# Altium schematic symbol library LINUX.SchLib: 132 symbols (part 2 of 4)
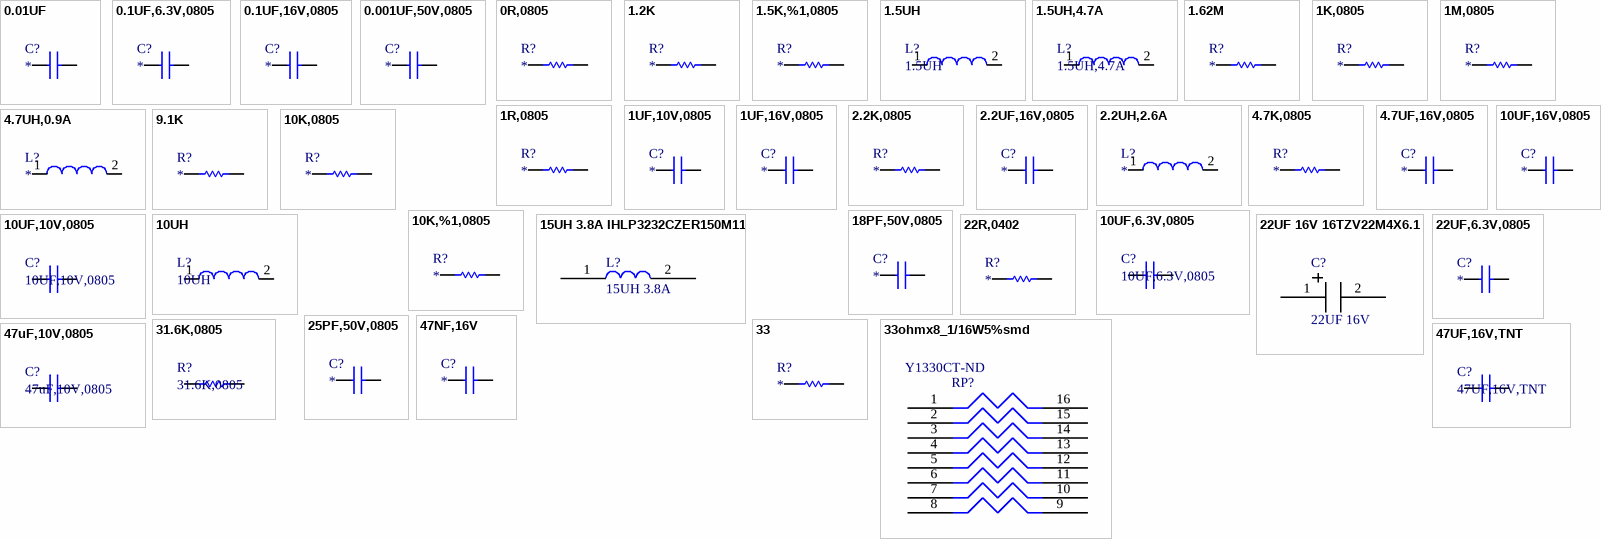
[diagram p8: symbols 0.01UF to 47UF,16V,TNT]

## 47NF,16V
designator C?
AVX - 0805YC473KAT2A - CAP, MLCC, X7R, 47NF, 16V, 0805; Capacitance: 0.047; Capacitance Tolerance: ± 10%; Dielectric Characteristic: X7; Voltage Rating: 16; Ceramic Capacitor Case: 0805 [2012 Metric]; SVHC: No SVHC (16-Jun-2014); Capacitor Case Style: 0805 [2012 Metric]<!--FANDB--><div class="features-and-benefits-container"></div>; Tolerance: ±10%; Manufacturer: AVX; Manufacturer Part Number: 0805YC473KAT2A; RoHS: YES; Product Range: -; Operating Temperature Min: -55; Operating Temperature Max: 125; Packaging: Cut Tape; MSL: MSL 1 - Unlimited; Capacitance Tolerance ±: ± 10%; ComponentLink1URL: http://www.farnell.com/datasheets/1679506.pdf; ComponentLink1Description: http://www.farnell.com/datasheets/1679506.pdf; Supplier 1: Digi-Key; Category: Capacitors; Stock 1: 15297; Pricing 1: 1=0.18, 10=0.124, 100=0.063, 250=0.051, 500=0.045, 1000=0.03825 (USD); Voltage - Rated: 16V; Temperature Coefficient: X7R; Mounting Type: Surface Mount, MLCC; Operating Temperature: -55°C ~ 125°C; Applications: General Purpose; Ratings: -; Package / Case: 0805 (2012 Metric); Size / Dimension: 0.079" L x 0.049" W (2.01mm x 1.25mm); Height - Seated (Max): -; Thickness (Max): 0.037" (0.94mm); Lead Spacing: -; Features: -; Lead Style: -; ComponentLink2URL: http://www.avx.com/docs/Catalogs/cx7r.pdf; ComponentLink2Description: http://www.avx.com/docs/Catalogs/cx7r.pdf; Supplier Part Number 1: 478-6221-1-ND
footprint 0805
pins: 1, 2

## 47uF,10V,0805
designator C?
Multilayer Ceramic Capacitors MLCC - SMD/SMT 0805 47uF 10volts X5R +/-20%; Manufacturer: TDK; Manufacturer Part Number: C2012X5R1A476M125AC; Tolerance: 20 %; Type: Multilayer Ceramic Chip Capacitor; Case Height: 1.25 mm; Case Length: 2 mm; Temperature Coefficient / Code: +/- 15 %; Supplier 1: Mouser; RoHS: RoHS Compliant; Category: Multilayer Ceramic Capacitors MLCC - SMD/SMT; Stock 1: 127308; Pricing 1: 1=1.53, 10=1.28, 100=0.615, 1000=0.548, 2000=0.368, 10000=0.349, 24000=0.342, 50000=0.337 (AUD); Capacitance: 47 uF; Package / Case: 0805 (2012 metric); Packaging: Reel; Product: General Type MLCCs; Termination Style: SMD/SMT; Voltage Rating DC: 10 V; Brand: TDK; Case Code - in: 0805; Case Code - mm: 2012; Case Width: 1.25 mm; Dielectric: X5R; Maximum Operating Temperature: + 85 C; Minimum Operating Temperature: - 55 C; Standard Pack Qty: 2000; RoHS - Mouser: Y; Minimum Order Quantity: 1; Reeling: True; ComponentLink1URL: http://www.mouser.com/ds/2/400/mlcc_commercial_general_en-266370.pdf; ComponentLink1Description: http://www.mouser.com/ds/2/400/mlcc_commercial_general_en-266370.pdf; Supplier Part Number 1: 810-C2012X5R1A476M
footprint 0805
pins: 1, 2

## 47UF,16V,TNT
designator C?
Tantalum Capacitors - Solid SMD 16volts 47uF 10% ESR=150mOhms; Manufacturer: Kemet; Manufacturer Part Number: T495D476K016ATE150; Mfr Case Code: D; Case Length: 7.3 mm; Case Width: 4.3 mm; Supplier 1: Mouser; RoHS: RoHS Compliant; Category: Tantalum Capacitors - Solid SMD; Stock 1: 412; Pricing 1: 1=2.60, 10=1.89, 100=1.25, 500=0.885, 1000=0.765, 2500=0.689, 10000=0.650, 25000=0.637 (AUD); Capacitance: 47 uF; Height: 4.3 mm; Operating Temperature Range: - 55 C to + 125 C; Package / Case: 2917 (7343 metric); Packaging: Reel; Product: Tantalum Solid Low ESR Automotive Grade; Series: T495; Termination Style: SMD/SMT; Tolerance: 10 %; Voltage Rating: 16 V; Voltage Rating DC: 16 V; Brand: Kemet; ESR: 150 mOhms; Leakage Current: -; Case Code - in: 2917; Case Code - mm: 7343; Dissipation Factor DF: -; Maximum Operating Temperature: + 125 C; Minimum Operating Temperature: - 55 C; Product Category: SMD Low ESR Tantalum Chip Capacitors; Ripple Current: -; Standard Pack Qty: 500; RoHS - Mouser: Y; Minimum Order Quantity: 1; Reeling: True; ComponentLink1URL: http://www.mouser.com/ds/2/212/KEM_T2009_T495-321035.pdf; ComponentLink1Description: http://www.mouser.com/ds/2/212/KEM_T2009_T495-321035.pdf; Supplier Part Number 1: 80-T495D476K016
footprint INDUCTR
pins: 1, 2

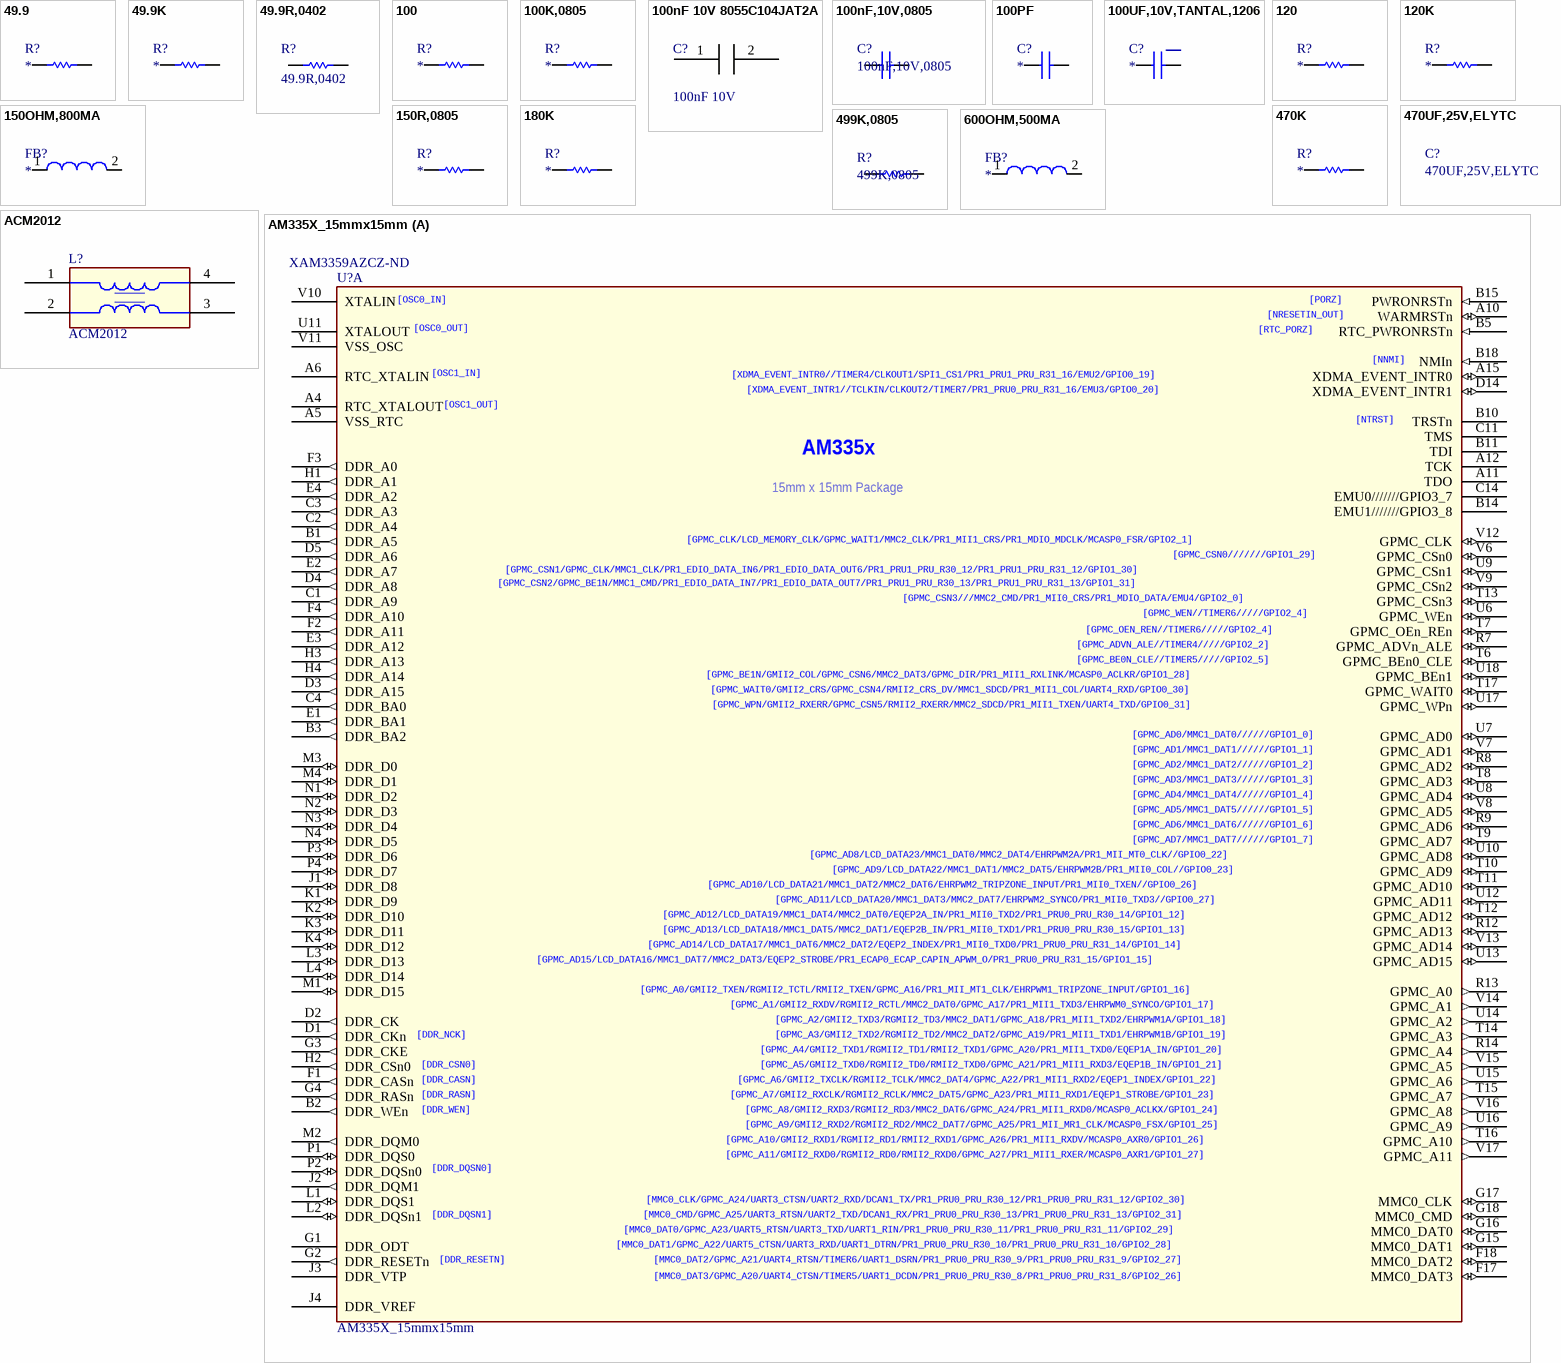
[diagram p1: symbols 49.9 to AM335X_15mmx15mm]

## 49.9
designator R?
PANASONIC - ERJP06F49R9V - RESISTOR, THICK FILM, 49.9 OHM, 0.5W, 1%; Product Range: PANASONIC - ERJ Series; Resistance: 49.9; Power Rating: 500; Resistor Case Style: 0805 [2012 Metric]; Temperature Coefficient: ± 100; Voltage Rating: 400; SVHC: No SVHC (16-Dec-2013; Power (Watts): 0.1W, 1/10W; Manufacturer: PANASONIC; Manufacturer Part Number: ERJP06F49R9V; RoHS: YES; Resistance Tolerance: ± 1%; Resistor Element Material: Thick Film; Packaging: Cut Tape; MSL: -; ComponentLink1URL: http://www.farnell.com/datasheets/1801181.pdf; ComponentLink1Description: http://www.farnell.com/datasheets/1801181.pdf; ComponentLink2URL: http://www.farnell.com/datasheets/1718548.pdf; ComponentLink2Description: http://www.farnell.com/datasheets/1718548.pdf; Category: Resistors; Resistance (Ohms): 49.9; Tolerance: ±1%; Composition: Thick Film; Features: Automotive AEC-Q200; Operating Temperature: -55°C ~ 155°C; Package / Case: 0402 (1005 Metric); Supplier Device Package: 0402; Size / Dimension: 0.039" L x 0.020" W (1.00mm x 0.50mm); Height: 0.016" (0.40mm); Number of Terminations: 2; ComponentLink3URL: http://industrial.panasonic.com/www-cgi/jvcr13pz.cgi?E+PZ+3+AOA0002+ERJ2RKF49R9X+7+WW; ComponentLink3Description: http://industrial.panasonic.com/www-cgi/jvcr13pz.cgi?E+PZ+3+AOA0002+ERJ2RKF49R9X+7+WW; Supplier 1: Digi-Key; Stock 1: 24718; Pricing 1: 1=0.63, 50=0.2494, 100=0.1924, 250=0.14964, 500=0.10546, 1000=0.07695 (USD); ComponentLink4URL: http://industrial.panasonic.com/www-cgi/jvcr13pz.cgi?E+PZ+3+AOA0026+ERA6AEB49R9V+7+WW; ComponentLink4Description: http://industrial.panasonic.com/www-cgi/jvcr13pz.cgi?E+PZ+3+AOA0026+ERA6AEB49R9V+7+WW; Supplier Part Number 1: P49.9DACT-ND
footprint 0402
pins: 1, 2

## 49.9K
designator R?
RES 49.9K OHM 1/8W .1% 0805 SMD; Manufacturer: Panasonic Electronic Components; Manufacturer Part Number: ERA-6AEB4992V; Tolerance: ±0.1%; Power (Watts): 0.125W, 1/8W; Temperature Coefficient: ±25ppm/°C; Supplier 1: Digi-Key; RoHS: RoHS Compliant; Category: Resistors; Stock 1: 25646; Pricing 1: 1=0.63, 50=0.2494, 100=0.1924, 250=0.14964, 500=0.10546, 1000=0.07695 (USD); Packaging: Cut Tape (CT); Resistance (Ohms): 49.9k; Composition: Thin Film; Features: Automotive AEC-Q200 Qualified; Package / Case: 0805 (2012 Metric); Supplier Device Package: 0805; Size / Dimension: 0.079" L x 0.049" W (2.00mm x 1.25mm); Height: 0.024" (0.60mm); Number of Terminations: 2; ComponentLink1URL: http://industrial.panasonic.com/www-cgi/jvcr13pz.cgi?E+PZ+3+AOA0026+ERA6AEB4992V+7+WW; ComponentLink1Description: http://industrial.panasonic.com/www-cgi/jvcr13pz.cgi?E+PZ+3+AOA0026+ERA6AEB4992V+7+WW; Supplier Part Number 1: P49.9KDACT-ND
footprint 0805
pins: 1, 2

## 49.9R,0402
designator R?
RES SMD 49.9 OHM 0.1% 1/16W 0402; Manufacturer: TE Connectivity; Manufacturer Part Number: CPF0402B49R9E; Resistance (Ohms): 49.9; Power (Watts): 0.063W, 1/16W; Temperature Coefficient: ±25ppm/°C; Supplier 1: Digi-Key; RoHS: RoHS Compliant; Category: Resistors; Stock 1: 4750; Pricing 1: 1=0.63, 10=0.484, 25=0.368, 50=0.2734, 100=0.2033, 250=0.17176, 500=0.14722, 1000=0.11216, 2500=0.10516 (USD); Packaging: Cut Tape (CT); Tolerance: ±0.1%; Composition: Thin Film; Features: -; Operating Temperature: -55°C ~ 155°C; Package / Case: 0402 (1005 Metric); Supplier Device Package: 0402; Size / Dimension: 0.039" L x 0.020" W (1.00mm x 0.50mm); Height: 0.014" (0.35mm); Number of Terminations: 2; ComponentLink1URL: http://www.te.com/commerce/DocumentDelivery/DDEController?Action=srchrtrv&DocNm=1773200&DocType=DS&DocLang=English; ComponentLink1Description: http://www.te.com/commerce/DocumentDelivery/DDEController?Action=srchrtrv&DocNm=1773200&DocType=DS&DocLang=English; Supplier Part Number 1: A119944CT-ND
footprint 0402
pins: 1, 2

## 100
designator R?
RES 100 OHM 1/8W 1% 0805 SMD; Manufacturer: Rohm Semiconductor; Manufacturer Part Number: MCR10ERTF1000; Resistance (Ohms): 100; Power (Watts): 0.125W, 1/8W; Temperature Coefficient: ±100ppm/°C; Supplier 1: Digi-Key; RoHS: RoHS Compliant; Category: Resistors; Stock 1: 27803; Pricing 1: 1=0.1, 10=0.027, 25=0.0196, 100=0.0109, 250=0.00832, 500=0.00666, 1000=0.0049 (USD); Packaging: Cut Tape (CT); Tolerance: ±1%; Composition: Thick Film; Features: -; Package / Case: 0805 (2012 Metric); Supplier Device Package: 0805 (2012 Metric); Size / Dimension: 0.079" L x 0.049" W (2.00mm x 1.25mm); Height: 0.024" (0.60mm); Number of Terminations: 2; ComponentLink1URL: http://rohmfs.rohm.com/en/products/databook/datasheet/passive/resistor/chip_resistor/mcr_g.pdf; ComponentLink1Description: http://rohmfs.rohm.com/en/products/databook/datasheet/passive/resistor/chip_resistor/mcr_g.pdf; Supplier Part Number 1: RHM100CHCT-ND
footprint 0805
pins: 1, 2

## 100K,0805
designator R?
TE CONNECTIVITY / NEOHM - CPF0805B100KE1 - RESISTOR, 0805, 100K; Product Range: TE CONNECTIVITY - CPF Series; Resistance: 100; Resistance Tolerance: ± 0.1%; Resistor Case Style: 0805 [2012 Metric]; Resistor Element Material: Thin Film; Temperature Coefficient: ± 25; Voltage Rating: 200; External Depth: 0.5; External Length / Height: 2; External Width: 1.25; Resistor Mounting: SMD; Tolerance: ±5%; Power (Watts): 0.125W, 1/8W; Manufacturer: TE CONNECTIVITY / NEOHM; Manufacturer Part Number: CPF0805B100KE1; RoHS: YES; Power Rating: 100; Packaging: Cut Tape; MSL: -; No. of Pins: 2; Operating Temperature Max: 155; Operating Temperature Min: -55; Operating Temperature Range: -55°C to +155; Series: CPF<!--FANDB--><div class="features-and-benefits-container"></div>; ComponentLink1URL: http://www.tycoelectronics.com/commerce/DocumentDelivery/DDEController?Action=srchrtrv&DocNm=1614883&DocType=Customer+Drawing&DocLang=English; ComponentLink1Description: http://www.tycoelectronics.com/commerce/DocumentDelivery/DDEController?Action=srchrtrv&DocNm=1614883&DocType=Customer+Drawing&DocLang=English; ComponentLink2URL: http://www.tycoelectronics.com/commerce/DocumentDelivery/DDEController?Action=srchrtrv&DocNm=1773200&DocType=Data+Sheet&DocLang=English; ComponentLink2Description: http://www.tycoelectronics.com/commerce/DocumentDelivery/DDEController?Action=srchrtrv&DocNm=1773200&DocType=Data+Sheet&DocLang=English; Supplier 1: Digi-Key; Category: Resistors; Stock 1: 923150; Pricing 1: 1=0.1, 50=0.0196, 100=0.0149, 250=0.01104, 500=0.00816, 1000=0.00544, 2500=0.00459 (USD); Resistance (Ohms): 100k; Composition: Thick Film; Features: Automotive AEC-Q200; Operating Temperature: -55°C ~ 155°C; Package / Case: 0805 (2012 Metric); Supplier Device Package: 0805; Size / Dimension: 0.079" L x 0.049" W (2.00mm x 1.25mm); Height: 0.028" (0.70mm); Number of Terminations: 2; ComponentLink3URL: http://industrial.panasonic.com/www-cgi/jvcr13pz.cgi?E+PZ+3+AOA0001+ERJ6GEYJ104V+7+WW; ComponentLink3Description: http://industrial.panasonic.com/www-cgi/jvcr13pz.cgi?E+PZ+3+AOA0001+ERJ6GEYJ104V+7+WW; Supplier Part Number 1: P100KACT-ND
footprint 0805
pins: 1, 2

## 100nF 10V 8055C104JAT2A
designator C?, comment 100nF 10V
AVX - 08055C104JAT2A - CAP, MLCC, X7R, 100NF, 50V, 0805; Capacitance: 0.1; Capacitance Tolerance: ± 5%; Dielectric Characteristic: X7; Voltage Rating: 50; Ceramic Capacitor Case: 0805 [2012 Metric]; SVHC: No SVHC (16-Jun-2014); Capacitor Terminals: SMD; External Depth: 1.25; External Length / Height: 0.5; External Width: 2.01; No. of Pins: 2; No. of Channels: 4; Isolation Voltage: 2.5; CTR Min: 50%; Forward Current If Max: 30; Optocoupler Case Style: SSOP; Input Current: 5; Optocoupler Output Type: Phototransistor; Output Voltage: 80; Tolerance: ±5%; Type: Commercial Grade MLCC; Voltage Rating DC: 6.3 V; Brand: TDK; Case Height: 1.25 mm; Case Length: 2 mm; Class: Class 2; Dissipation Factor DF: 10; Temperature Coefficient / Code: +/- 15 %; Product Status: New Product; Manufacturer: AVX; Manufacturer Part Number: 08055C104JAT2A; RoHS: YES; Product Range: -; Operating Temperature Min: -55; Operating Temperature Max: 125; Packaging: Cut Tape; MSL: MSL 1 - Unlimited; Capacitance Tolerance ±: ± 5%; Capacitor Case Style: 0805 [2012 Metric]; Operating Temperature Range: -55°C to +125; Series: MLCC<!--FANDB--><div class="features-and-benefits-container"></div>; ComponentLink1URL: http://www.farnell.com/datasheets/1679506.pdf; ComponentLink1Description: http://www.farnell.com/datasheets/1679506.pdf; ComponentLink2URL: http://www.farnell.com/cad/1614383.zip; ComponentLink2Description: http://www.farnell.com/cad/1614383.zip; ComponentLink3URL: http://www.farnell.com/datasheets/1825494.pdf; ComponentLink3Description: http://www.farnell.com/datasheets/1825494.pdf; ComponentLink4URL: http://www.farnell.com/datasheets/89583.pdf; ComponentLink4Description: http://www.farnell.com/datasheets/89583.pdf; Supplier 1: Digi-Key; Category: Capacitors; Stock 1: 205492; Pricing 1: 1=0.15, 10=0.1, 100=0.0475, 250=0.04, 500=0.0335, 1000=0.0275 (USD); Voltage - Rated: 50V; Temperature Coefficient: X7R; Mounting Type: Surface Mount, MLCC; Operating Temperature: -55°C ~ 125°C; Applications: General Purpose; Ratings: -; Package / Case: 0805 (2012 Metric); Size / Dimension: 0.079" L x 0.049" W (2.01mm x 1.25mm); Height - Seated (Max): -; Thickness (Max): 0.037" (0.94mm); Lead Spacing: -; Features: -; Lead Style: -; ComponentLink5URL: http://www.avx.com/docs/Catalogs/cx7r.pdf; ComponentLink5Description: http://www.avx.com/docs/Catalogs/cx7r.pdf; Supplier Part Number 1: 478-3352-1-ND; Product: General Type MLCCs; Termination Style: SMD/SMT; Case Code - in: 0805; Case Code - mm: 2012; Case Width: 1.25 mm; Dielectric: X7R; Maximum Operating Temperature: + 125 C; Minimum Operating Temperature: - 55 C; RoHS - Mouser: Y; Minimum Order Quantity: 1; Reeling: True; ComponentLink6URL: http://www.mouser.com/ds/2/400/mlcc_commercial_general_en-266370.pdf; ComponentLink6Description: http://www.mouser.com/ds/2/400/mlcc_commercial_general_en-266370.pdf
footprint 0805
pins: 1 14, 2 15

## 100nF,10V,0805
designator C?
Multilayer Ceramic Capacitors MLCC - SMD/SMT 10volts 0.1uF X7R 10%; Manufacturer: Kemet; Manufacturer Part Number: C0805C104K8RACTU; Type: SMD MLCC X7R 6.3 - 250 VDC Commerical Grade; Case Length: 2 mm; Case Width: 1.2 mm; Class: Class 1; Temperature Coefficient / Code: +/- 15 %; Supplier 1: Mouser; RoHS: RoHS Compliant; Category: Multilayer Ceramic Capacitors MLCC - SMD/SMT; Stock 1: 21715; Pricing 1: 1=0.178, 10=0.071, 100=0.049, 1000=0.033, 4000=0.027, 8000=0.022, 100000=0.016 (AUD); Capacitance: 0.1 uF; Operating Temperature Range: - 55 C to + 125 C; Package / Case: 0805 (2012 metric); Packaging: Reel; Product: General Type MLCCs; Series: C0805C; Termination Style: SMD/SMT; Tolerance: 10 %; Voltage Rating AC: -; Voltage Rating DC: 10 V; Brand: Kemet; Case Code - in: 0805; Case Code - mm: 2012; Case Height: -; Dielectric: X7R; Dissipation Factor DF: -; Lead Spacing: 0.75 mm; Maximum Operating Temperature: + 125 C; Minimum Operating Temperature: - 55 C; Product Category: 0805 SMD Ceramic Chip Capacitors; Standard Pack Qty: 4000; RoHS - Mouser: Y; Minimum Order Quantity: 1; Reeling: True; ComponentLink1URL: http://www.mouser.com/ds/2/212/KEM_C1002_X7R_SMD-357932.pdf; ComponentLink1Description: http://www.mouser.com/ds/2/212/KEM_C1002_X7R_SMD-357932.pdf; Supplier Part Number 1: 80-C0805C104K8R
footprint 0805
pins: 1, 2

## 100PF
designator C?
MULTICOMP - MCMT21N101F100CT - CAP, MLCC, C0G/NP0, 100PF, 10V, 0805; Product Range: MULTICOMP - MCCA Series; Capacitance: 100; Capacitance Tolerance: ± 1%; Voltage Rating: 10; Ceramic Capacitor Case: 0805 [2012 Metric]; Capacitor Terminals: SMD; Temperature Coefficient: ± 30; Tolerance: ±10%; Voltage - Rated: 25V; Manufacturer: MULTICOMP; Manufacturer Part Number: MCMT21N101F100CT; RoHS: YES; Dielectric Characteristic: C0G / NP0; Operating Temperature Min: -55; Operating Temperature Max: 125; Packaging: Cut Tape; MSL: -; Capacitance Tolerance ±: ± 1%; Capacitor Case Style: 0805 [2012 Metric]; Operating Temperature Range: -55°C to +125; Series: MT; ComponentLink1URL: http://www.farnell.com/datasheets/876497.pdf; ComponentLink1Description: http://www.farnell.com/datasheets/876497.pdf; ComponentLink2URL: http://www.farnell.com/datasheets/1825496.pdf; ComponentLink2Description: http://www.farnell.com/datasheets/1825496.pdf; Supplier 1: Digi-Key; Category: Capacitors; Stock 1: 10259; Pricing 1: 1=0.16, 10=0.111, 50=0.063, 100=0.0522, 250=0.0432, 500=0.0366, 1000=0.0303 (USD); Mounting Type: Surface Mount, MLCC; Operating Temperature: -55°C ~ 125°C; Applications: General Purpose; Ratings: -; Package / Case: 0805 (2012 Metric); Size / Dimension: 0.079" L x 0.049" W (2.00mm x 1.25mm); Height - Seated (Max): -; Thickness (Max): 0.035" (0.88mm); Lead Spacing: -; Features: -; Lead Style: -; ComponentLink3URL: http://www.kemet.com/docfinder?Partnumber=C0805C101K3GACTU; ComponentLink3Description: http://www.kemet.com/docfinder?Partnumber=C0805C101K3GACTU; Supplier Part Number 1: 399-9150-1-ND
footprint 0805
pins: 1, 2

## 100UF,10V,TANTAL,1206
designator C?
VISHAY - TL8A0107M010C - CAP, TANT, 100UF, 10V, CASE A0; Capacitance: 100µF; Tolerance: ±20%; ESR (Equivalent Series Resistance): 7 Ohm; Type: Molded; Manufacturer: VISHAY; Manufacturer Part Number: TL8A0107M010C; RoHS: YES; ComponentLink1URL: http://www.farnell.com/datasheets/1821046.pdf; ComponentLink1Description: http://www.farnell.com/datasheets/1821046.pdf; Supplier 1: Digi-Key; Category: Capacitors; Stock 1: 19102; Pricing 1: 1=1.35, 10=1.128, 100=0.828, 250=0.72, 500=0.672, 1000=0.528 (USD); Packaging: Cut Tape (CT); Voltage - Rated: 10V; Operating Temperature: -55°C ~ 125°C; Mounting Type: Surface Mount; Package / Case: 1206 (3216 Metric); Size / Dimension: 0.126" L x 0.063" W (3.20mm x 1.60mm); Height - Seated (Max): 0.039" (1.00mm); Lead Spacing: -; Manufacturer Size Code: A0; Features: General Purpose; Lifetime @ Temp.: -; ComponentLink2URL: http://www.vishay.com/docs/40156/tl8.pdf; ComponentLink2Description: http://www.vishay.com/docs/40156/tl8.pdf; Supplier Part Number 1: 718-1921-1-ND
footprint 1206
pins: 1, 2

## 120
designator R?
BOURNS - CR0805-FX-1200GLF - RESISTOR, 0805, 120R, 1%, 1/8W; Resistance (Ohms): 120; Tolerance: ±5%; Power (Watts): 0.125W, 1/8W; Temperature Coefficient: ±200ppm/°C; Manufacturer: BOURNS; Manufacturer Part Number: CR0805-FX-1200GLF; RoHS: YES; ComponentLink1URL: http://www.farnell.com/datasheets/1845293.pdf; ComponentLink1Description: http://www.farnell.com/datasheets/1845293.pdf; Supplier 1: Digi-Key; Category: Resistors; Stock 1: 49631; Pricing 1: 1=0.1, 10=0.021, 50=0.0116, 100=0.0088, 250=0.00652, 500=0.0048, 1000=0.0032, 2500=0.0027 (USD); Packaging: Cut Tape (CT); Composition: Thick Film; Features: -; Operating Temperature: -55°C ~ 155°C; Package / Case: 0805 (2012 Metric); Supplier Device Package: 0805; Size / Dimension: 0.079" L x 0.049" W (2.00mm x 1.25mm); Height: 0.026" (0.65mm); Number of Terminations: 2; ComponentLink2URL: http://www.seielect.com/Catalog/SEI-RMCF_RMCP.pdf; ComponentLink2Description: http://www.seielect.com/Catalog/SEI-RMCF_RMCP.pdf; Supplier Part Number 1: RMCF0805JT120RCT-ND
footprint 0805
pins: 1, 2

## 120K
designator R?
TE CONNECTIVITY - CRGH0805F120K - RESISTOR, POWER, 120K, 0.33W, 1%, 0805; Product Range: TE CONNECTIVITY - CRG Series; Resistance: 120; Power Rating: 330; Resistor Case Style: 0805 [2012 Metric]; Resistor Element Material: Thick Film; Temperature Coefficient: ± 100; Voltage Rating: 150; Power (Watts): 0.125W, 1/8W; Manufacturer: TE CONNECTIVITY; Manufacturer Part Number: CRGH0805F120K; RoHS: YES; Resistance Tolerance: ± 1%; Packaging: Cut Tape; MSL: -<!--FANDB--><div class="features-and-benefits-container"></div>; ComponentLink1URL: http://www.farnell.com/datasheets/1755795.pdf; ComponentLink1Description: http://www.farnell.com/datasheets/1755795.pdf; Supplier 1: Digi-Key; Category: Resistors; Stock 1: 39423; Pricing 1: 1=0.1, 50=0.0288, 100=0.0219, 250=0.01624, 500=0.012, 1000=0.008, 2500=0.00675 (USD); Resistance (Ohms): 120k; Tolerance: ±1%; Composition: Thick Film; Features: Automotive AEC-Q200; Operating Temperature: -55°C ~ 155°C; Package / Case: 0805 (2012 Metric); Supplier Device Package: 0805; Size / Dimension: 0.079" L x 0.049" W (2.00mm x 1.25mm); Height: 0.028" (0.70mm); Number of Terminations: 2; ComponentLink2URL: http://industrial.panasonic.com/www-cgi/jvcr13pz.cgi?E+PZ+3+AOA0002+ERJ6ENF1203V+7+WW; ComponentLink2Description: http://industrial.panasonic.com/www-cgi/jvcr13pz.cgi?E+PZ+3+AOA0002+ERJ6ENF1203V+7+WW; Supplier Part Number 1: P120KCCT-ND
footprint 0805
pins: 1, 2

## 150OHM,800MA
designator FB?
FERRITE 800MA 150 OHM 0805 SMD; Manufacturer: Laird-Signal Integrity Products; Manufacturer Part Number: LI0805H151R-10; Impedance @ Frequency: 150 Ohm @ 100MHz; DC Resistance (DCR): 150 mOhm Max; Filter Type: Differential Mode - Single; Supplier 1: Digi-Key; RoHS: RoHS Compliant; Category: Filters; Stock 1: 418596; Pricing 1: 1=0.1, 10=0.07, 25=0.064, 50=0.0574, 100=0.0421, 250=0.03064, 500=0.02808, 1000=0.02424 (USD); Packaging: Cut Tape (CT); Current Rating: 800mA; Package / Case: 0805 (2012 Metric); Mounting Type: Surface Mount; Height (Max): 0.043" (1.10mm); Size / Dimension: 0.079" L x 0.049" W (2.00mm x 1.25mm); ComponentLink1URL: http://www.lairdtech.com/WorkArea/linkit.aspx?LinkIdentifier=id&ItemID=4912; ComponentLink1Description: http://www.lairdtech.com/WorkArea/linkit.aspx?LinkIdentifier=id&ItemID=4912; Supplier Part Number 1: 240-2384-1-ND
footprint 0805
pins: 1, 2

## 150R,0805
designator R?
TE CONNECTIVITY / NEOHM - CPF0805B150RE1 - RESISTOR, 0805, 150R; Product Range: TE CONNECTIVITY - CPF Series; Resistance: 150; Power Rating: 100; Resistance Tolerance: ± 0.1%; Resistor Case Style: 0805 [2012 Metric]; Resistor Element Material: Thin Film; Temperature Coefficient: ± 25; Voltage Rating: 200; External Depth: 0.5; External Length / Height: 2; External Width: 1.25; Resistor Mounting: SMD; Tolerance: ±5%; Power (Watts): 0.125W, 1/8W; Manufacturer: TE CONNECTIVITY / NEOHM; Manufacturer Part Number: CPF0805B150RE1; RoHS: YES; Packaging: Cut Tape; MSL: -; No. of Pins: 2; Operating Temperature Max: 155; Operating Temperature Min: -55; Operating Temperature Range: -55°C to +155; Series: CPF<!--FANDB--><div class="features-and-benefits-container"></div>; ComponentLink1URL: http://www.tycoelectronics.com/commerce/DocumentDelivery/DDEController?Action=srchrtrv&DocNm=1614884&DocType=Customer+Drawing&DocLang=English; ComponentLink1Description: http://www.tycoelectronics.com/commerce/DocumentDelivery/DDEController?Action=srchrtrv&DocNm=1614884&DocType=Customer+Drawing&DocLang=English; ComponentLink2URL: http://www.tycoelectronics.com/commerce/DocumentDelivery/DDEController?Action=srchrtrv&DocNm=1773200&DocType=Data+Sheet&DocLang=English; ComponentLink2Description: http://www.tycoelectronics.com/commerce/DocumentDelivery/DDEController?Action=srchrtrv&DocNm=1773200&DocType=Data+Sheet&DocLang=English; Supplier 1: Digi-Key; Category: Resistors; Stock 1: 143875; Pricing 1: 1=0.1, 10=0.021, 50=0.0116, 100=0.0088, 250=0.00652, 500=0.0048, 1000=0.0032, 2500=0.0027 (USD); Resistance (Ohms): 150; Composition: Thick Film; Features: -; Operating Temperature: -55°C ~ 155°C; Package / Case: 0805 (2012 Metric); Supplier Device Package: 0805; Size / Dimension: 0.079" L x 0.049" W (2.00mm x 1.25mm); Height: 0.026" (0.65mm); Number of Terminations: 2; ComponentLink3URL: http://www.seielect.com/Catalog/SEI-RMCF_RMCP.pdf; ComponentLink3Description: http://www.seielect.com/Catalog/SEI-RMCF_RMCP.pdf; Supplier Part Number 1: RMCF0805JT150RCT-ND
footprint 0805
pins: 1, 2

## 180K
designator R?
RES 180K OHM 1/8W 1% 0805 SMD; Manufacturer: Vishay Dale; Manufacturer Part Number: CRCW0805180KFKEA; Power (Watts): 0.125W, 1/8W; Temperature Coefficient: ±100ppm/°C; Supplier 1: Digi-Key; RoHS: RoHS Compliant; Category: Resistors; Stock 1: 42364; Pricing 1: 10=0.089, 50=0.0482, 200=0.02765, 1000=0.01885 (USD); Packaging: Digi-Reel®; Resistance (Ohms): 180k; Tolerance: ±1%; Composition: Thick Film; Features: Automotive AEC-Q200 Qualified; Package / Case: 0805 (2012 Metric); Supplier Device Package: 0805 (2012 Metric); Size / Dimension: 0.079" L x 0.049" W (2.00mm x 1.25mm); Height: 0.020" (0.50mm); Number of Terminations: 2; ComponentLink1URL: http://www.vishay.com/docs/20035/dcrcwe3.pdf; ComponentLink1Description: http://www.vishay.com/docs/20035/dcrcwe3.pdf; Supplier Part Number 1: 541-180KCDKR-ND
footprint 0805
pins: 1, 2

## 470K
designator R?
RES 470K OHM 1/8W 1% 0805 SMD; Manufacturer: Rohm Semiconductor; Manufacturer Part Number: MCR10ERTF4703; Power (Watts): 0.125W, 1/8W; Temperature Coefficient: ±100ppm/°C; Supplier 1: Digi-Key; RoHS: RoHS Compliant; Category: Resistors; Stock 1: 10000; Pricing 1: 5000=0.00319, 10000=0.00277, 25000=0.00244, 50000=0.00223, 125000=0.00219 (USD); Packaging: Tape & Reel (TR); Resistance (Ohms): 470k; Tolerance: ±1%; Composition: Thick Film; Features: -; Package / Case: 0805 (2012 Metric); Supplier Device Package: 0805 (2012 Metric); Size / Dimension: 0.079" L x 0.049" W (2.00mm x 1.25mm); Height: 0.024" (0.60mm); Number of Terminations: 2; ComponentLink1URL: http://rohmfs.rohm.com/en/products/databook/datasheet/passive/resistor/chip_resistor/mcr_g.pdf; ComponentLink1Description: http://rohmfs.rohm.com/en/products/databook/datasheet/passive/resistor/chip_resistor/mcr_g.pdf; Supplier Part Number 1: RHM470KCHTR-ND
footprint 0805
pins: 1, 2

## 470UF,25V,ELYTC
designator C?
Aluminum Electrolytic Capacitors - SMD 470UF 25V VS SMD; Manufacturer: Panasonic; Manufacturer Part Number: EEE-1EA471UAP; Tolerance: 20 %; Type: Aluminum Capacitors SMD, High Temperature; Leakage Current: 3 uA; Case Diameter: 10 mm; Case Height: 12 mm; Case Length: 10.5 mm; Dissipation Factor DF: 0.25; Load Life: 2000 h; Ripple Current: 380 mA; Supplier 1: Mouser; RoHS: RoHS Compliant; Category: Aluminum Electrolytic Capacitors - SMD; Stock 1: 3860; Pricing 1: 1=1.13, 10=0.732, 100=0.385, 500=0.385, 1000=0.328, 2000=0.284, 10000=0.273, 25000=0.263, 50000=0.258 (AUD); Capacitance: 470 uF; Packaging: Reel; Product: High Temp Electrolytic Capacitors; Series: S-A; Termination Style: SMD/SMT; Voltage Rating DC: 25 V; Brand: Panasonic; Maximum Operating Temperature: + 85 C; Minimum Operating Temperature: - 40 C; Standard Pack Qty: 500; RoHS - Mouser: Y; Minimum Order Quantity: 1; Reeling: True; ComponentLink1URL: http://www.mouser.com/ds/2/315/ABA0000CE115-68351.pdf; ComponentLink1Description: http://www.mouser.com/ds/2/315/ABA0000CE115-68351.pdf; Supplier Part Number 1: 667-EEE-1EA471UAP
footprint CAPAE430X610N

## 499K,0805
designator R?
Thick Film Resistors - SMD 1/8watt 499Kohms 1%; Manufacturer: Vishay / Dale; Manufacturer Part Number: CRCW0805499KFKEA; Power Rating: 125 mW (1/8 W); Temperature Coefficient: 100 PPM / K; Voltage Rating: 150 V; Case Height: 0.45 mm; Case Length: 2 mm; Case Width: 1.25 mm; Supplier 1: Mouser; RoHS: RoHS Compliant By Exemption; Category: Thick Film Resistors - SMD; Stock 1: 33034; Pricing 1: 1=0.119, 10=0.071, 100=0.040, 1000=0.027, 5000=0.007, 100000=0.006 (AUD); Operating Temperature Range: - 55 C to + 155 C; Package / Case: 0805 (2012 metric); Packaging: Reel; Product: Thick Film Resistors SMD; Resistance: 499 kOhms; Series: CRCW; Tolerance: 1 %; Brand: Vishay / Dale; Case Code - in: 0805; Case Code - mm: 2012; Product Category: 0805 Thick Film Chip Resistors; Standard Pack Qty: 5000; RoHS - Mouser: E; Minimum Order Quantity: 1; Reeling: True; ComponentLink1URL: http://www.mouser.com/ds/2/427/dcrcwe3-109170.pdf; ComponentLink1Description: http://www.mouser.com/ds/2/427/dcrcwe3-109170.pdf; Supplier Part Number 1: 71-CRCW0805-499K-E3
footprint 0805
pins: 1, 2

## 600OHM,500MA
designator FB?
FERRITE CHIP 600 OHM 500MA 0603; Manufacturer: Murata Electronics North America; Manufacturer Part Number: BLM18AG601SN1D; Impedance @ Frequency: 600 Ohm @ 100MHz; DC Resistance (DCR): 380 mOhm Max; Filter Type: Differential Mode - Single; Supplier 1: Digi-Key; RoHS: RoHS Compliant; Category: Filters; Stock 1: 305151; Pricing 1: 1=0.1, 10=0.079, 50=0.0648, 100=0.0476, 250=0.0346, 500=0.0317, 1000=0.02738 (USD); Packaging: Digi-Reel®; Current Rating: 500mA; Package / Case: 0603 (1608 Metric); Mounting Type: Surface Mount; Height (Max): 0.037" (0.95mm); Size / Dimension: 0.063" L x 0.031" W (1.60mm x 0.80mm); ComponentLink1URL: http://search.murata.co.jp/Ceramy/image/img/PDF/ENG/L0110S0100BLM18A.pdf; ComponentLink1Description: http://search.murata.co.jp/Ceramy/image/img/PDF/ENG/L0110S0100BLM18A.pdf; Supplier Part Number 1: 490-1014-6-ND
footprint 0805
pins: 1, 2

## ACM2012
designator L?
Common Mode Filter for USB/HDMI; Mfr: TDK; MfrNum: ACM2012H-900-2P; TIIntPartnumber: 1M0003; Vendor: Arrow; Cost100: 1.11; Cost10K: 0.42; DescriptiveText: Common Mode Filter for USB/HDMI; PartName: ACM2012; Descriptive_Text: Common Mode Filter for USB/HDMI; Supplier 1: Digi-Key; Supplier Part Number 1: 445-5193-6-ND
footprint ACM2012H
pins: 1, 2, 3, 4

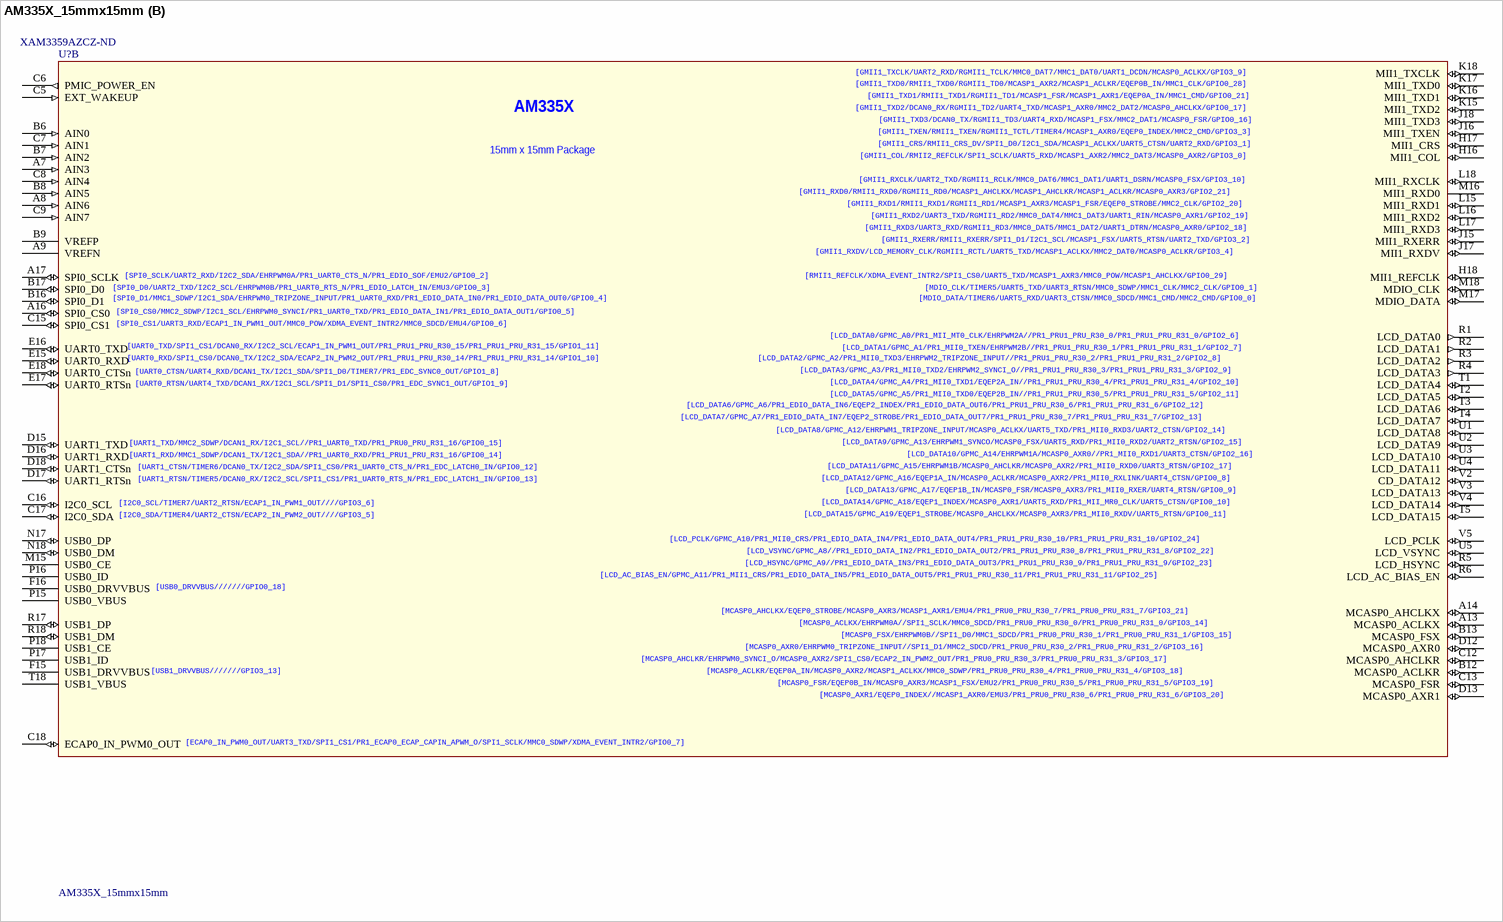
[diagram p2: symbol AM335X_15mmx15mm]

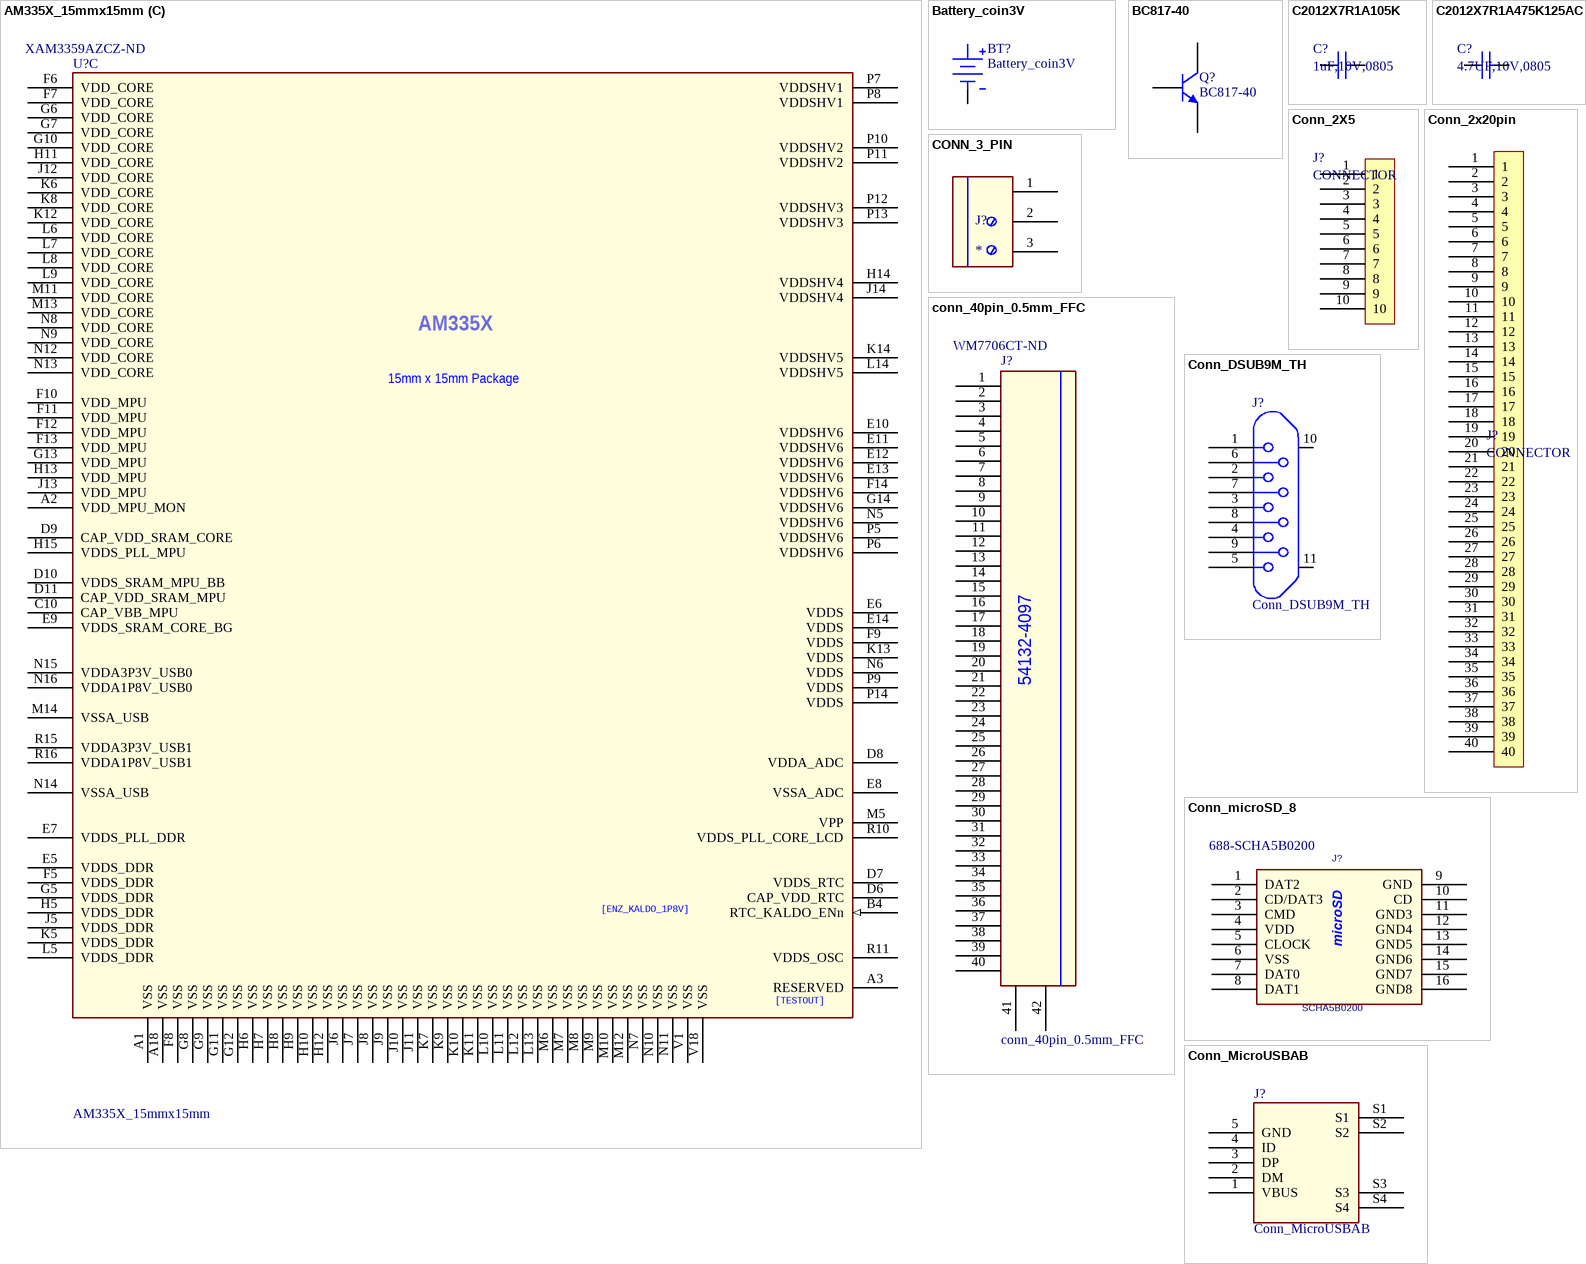
[diagram p3: symbols AM335X_15mmx15mm to Conn_MicroUSBAB]

## AM335X_15mmx15mm
designator U?  Supplier Part Number 1: XAM3359AZCZ-ND
SubArctic Cortex A8 Processor 15x15; PartName: AM335X_15x15; Mfr: TI; MfrNum: AM335x 15x15 FBGA ZCE; TIIntPartnumber: 1A0242; Vendor: Arrow; Cost100: 10.00; Cost10K: 10.00; Supplier 1: Digi-Key
footprint am33xx_15x15 (AM33XX_15X15)
part A pins: A4 RTC_XTALOUT, A5 VSS_RTC (power), A6 RTC_XTALIN, A10 WARMRSTn (io), A11 TDO, A12 TCK, A15 XDMA_EVENT_INTR0 (io), B1 DDR_A5 (out), B2 DDR_WEn (out), B3 DDR_BA2 (out), B5 RTC_PWRONRSTn (in), B10 TRSTn, B11 TDI, B14 EMU1///////GPIO3_8, B15 PWRONRSTn (in), B18 NMIn (in), C1 DDR_A9 (out), C2 DDR_A4 (out), C3 DDR_A3 (out), C4 DDR_BA0 (out), C11 TMS, C14 EMU0///////GPIO3_7, D1 DDR_CKn (out), D2 DDR_CK (out), D3 DDR_A15 (out), D4 DDR_A8 (out), D5 DDR_A6 (out), D14 XDMA_EVENT_INTR1 (io), E1 DDR_BA1 (out), E2 DDR_A7 (out), E3 DDR_A12 (out), E4 DDR_A2 (out), F1 DDR_CASn (out), F2 DDR_A11 (out), F3 DDR_A0 (out), F4 DDR_A10 (out), F17 MMC0_DAT3 (io), F18 MMC0_DAT2 (io), G1 DDR_ODT, G2 DDR_RESETn (out), G3 DDR_CKE (out), G4 DDR_RASn (out), G15 MMC0_DAT1 (io), G16 MMC0_DAT0 (io), G17 MMC0_CLK (io), G18 MMC0_CMD (io), H1 DDR_A1 (out), H2 DDR_CSn0 (out), H3 DDR_A13 (out), H4 DDR_A14 (out), J1 DDR_D8 (io), J2 DDR_DQM1 (out), J3 DDR_VTP, J4 DDR_VREF, K1 DDR_D9 (io), K2 DDR_D10 (io), K3 DDR_D11 (io), K4 DDR_D12 (io), L1 DDR_DQS1 (io), L2 DDR_DQSn1 (io), L3 DDR_D13 (io), L4 DDR_D14 (io), M1 DDR_D15 (io), M2 DDR_DQM0 (out), M3 DDR_D0 (io), M4 DDR_D1 (io), N1 DDR_D2 (io), N2 DDR_D3 (io), N3 DDR_D4 (io), N4 DDR_D5 (io), P1 DDR_DQS0 (io), P2 DDR_DQSn0 (io), P3 DDR_D6 (io), P4 DDR_D7 (io), R7 GPMC_ADVn_ALE (io), R8 GPMC_AD2 (io), R9 GPMC_AD6 (io), R12 GPMC_AD13 (io), R13 GPMC_A0 (out), R14 GPMC_A4 (out), T6 GPMC_BEn0_CLE (io), T7 GPMC_OEn_REn (io), T8 GPMC_AD3 (io), T9 GPMC_AD7 (io), T10 GPMC_AD9 (io), T11 GPMC_AD10 (io), T12 GPMC_AD12 (io), T13 GPMC_CSn3 (io), T14 GPMC_A3 (out), T15 GPMC_A7 (out), T16 GPMC_A10 (out), T17 GPMC_WAIT0 (io), U6 GPMC_WEn (io), U7 GPMC_AD0 (io), U8 GPMC_AD4 (io), U9 GPMC_CSn1 (io), U10 GPMC_AD8 (io), U11 XTALOUT, U12 GPMC_AD11 (io), U13 GPMC_AD15 (io), U14 GPMC_A2 (out), U15 GPMC_A6 (out), U16 GPMC_A9 (out), U17 GPMC_WPn (io), U18 GPMC_BEn1 (io), V6 GPMC_CSn0 (io), V7 GPMC_AD1 (io), V8 GPMC_AD5 (io), V9 GPMC_CSn2 (io), V10 XTALIN, V11 VSS_OSC (power), V12 GPMC_CLK (io), V13 GPMC_AD14 (io), V14 GPMC_A1 (out), V15 GPMC_A5 (out), V16 GPMC_A8 (out), V17 GPMC_A11 (out)
part B pins: A7 AIN3 (in), A8 AIN6 (in), A9 VREFN, A13 MCASP0_ACLKX (io), A14 MCASP0_AHCLKX (io), A16 SPI0_CS0 (io), A17 SPI0_SCLK (io), B6 AIN0 (in), B7 AIN2 (in), B8 AIN5 (in), B9 VREFP, B12 MCASP0_ACLKR (io), B13 MCASP0_FSX (io), B16 SPI0_D1 (io), B17 SPI0_D0 (io), C5 EXT_WAKEUP (in), C6 PMIC_POWER_EN (out), C7 AIN1 (in), C8 AIN4 (in), C9 AIN7 (in), C12 MCASP0_AHCLKR (io), C13 MCASP0_FSR (io), C15 SPI0_CS1 (io), C16 I2C0_SCL (io), C17 I2C0_SDA (io), C18 ECAP0_IN_PWM0_OUT (io), D12 MCASP0_AXR0 (io), D13 MCASP0_AXR1 (io), D15 UART1_TXD (io), D16 UART1_RXD (io), D17 UART1_RTSn (io), D18 UART1_CTSn (io), E15 UART0_RXD (io), E16 UART0_TXD (io), E17 UART0_RTSn (io), E18 UART0_CTSn (io), F15 USB1_DRVVBUS, F16 USB0_DRVVBUS, H16 MII1_COL (io), H17 MII1_CRS (io), H18 MII1_REFCLK (io), J15 MII1_RXERR (io), J16 MII1_TXEN (io), J17 MII1_RXDV (io), J18 MII1_TXD3 (io), K15 MII1_TXD2 (io), K16 MII1_TXD1 (io), K17 MII1_TXD0 (io), K18 MII1_TXCLK (io), L15 MII1_RXD1 (io), L16 MII1_RXD2 (io), L17 MII1_RXD3 (io), L18 MII1_RXCLK (io), M15 USB0_CE, M16 MII1_RXD0, M17 MDIO_DATA (io), M18 MDIO_CLK (io), N17 USB0_DP (io), N18 USB0_DM (io), P15 USB0_VBUS, P16 USB0_ID, P17 USB1_ID, P18 USB1_CE, R1 LCD_DATA0 (out), R2 LCD_DATA1 (out), R3 LCD_DATA2 (out), R4 LCD_DATA3 (out), R5 LCD_HSYNC (io), R6 LCD_AC_BIAS_EN (io), R17 USB1_DP (io), R18 USB1_DM (io), T1 LCD_DATA4 (io), T2 LCD_DATA5 (io), T3 LCD_DATA6 (io), T4 LCD_DATA7 (io), T5 LCD_DATA15 (io), T18 USB1_VBUS, U1 LCD_DATA8 (io), U2 LCD_DATA9 (io), U3 LCD_DATA10 (io), U4 LCD_DATA11 (io), U5 LCD_VSYNC (io), V2 CD_DATA12 (io), V3 LCD_DATA13 (io), V4 LCD_DATA14 (io), V5 LCD_PCLK (io)
part C pins: A1 VSS (power), A2 VDD_MPU_MON, A3 RESERVED, A18 VSS (power), B4 RTC_KALDO_ENn (in), C10 CAP_VBB_MPU, D6 CAP_VDD_RTC (power), D7 VDDS_RTC (power), D8 VDDA_ADC (power), D9 CAP_VDD_SRAM_CORE (power), D10 VDDS_SRAM_MPU_BB (power), D11 CAP_VDD_SRAM_MPU (power), E5 VDDS_DDR (power), E6 VDDS (power), E7 VDDS_PLL_DDR (power), E8 VSSA_ADC (power), E9 VDDS_SRAM_CORE_BG (power), E10 VDDSHV6 (power), E11 VDDSHV6 (power), E12 VDDSHV6 (power), E13 VDDSHV6 (power), E14 VDDS (power), F5 VDDS_DDR (power), F6 VDD_CORE (power), F7 VDD_CORE (power), F8 VSS (power), F9 VDDS (power), F10 VDD_MPU (power), F11 VDD_MPU (power), F12 VDD_MPU (power), F13 VDD_MPU (power), F14 VDDSHV6 (power), G5 VDDS_DDR (power), G6 VDD_CORE (power), G7 VDD_CORE (power), G8 VSS (power), G9 VSS (power), G10 VDD_CORE (power), G11 VSS (power), G12 VSS (power), G13 VDD_MPU (power), G14 VDDSHV6 (power), H5 VDDS_DDR (power), H6 VSS (power), H7 VSS (power), H8 VSS (power), H9 VSS (power), H10 VSS (power), H11 VDD_CORE (power), H12 VSS (power), H13 VDD_MPU (power), H14 VDDSHV4 (power), H15 VDDS_PLL_MPU (power), J5 VDDS_DDR (power), J6 VSS (power), J7 VSS (power), J8 VSS (power), J9 VSS (power), J10 VSS (power), J11 VSS (power), J12 VDD_CORE (power), J13 VDD_MPU (power), J14 VDDSHV4 (power), K5 VDDS_DDR (power), K6 VDD_CORE (power), K7 VSS (power), K8 VDD_CORE (power), K9 VSS (power), K10 VSS (power), K11 VSS (power), K12 VDD_CORE (power), K13 VDDS (power), K14 VDDSHV5 (power), L5 VDDS_DDR (power), L6 VDD_CORE (power), L7 VDD_CORE (power), L8 VDD_CORE (power), L9 VDD_CORE (power), L10 VSS (power), L11 VSS (power), L12 VSS (power), L13 VSS (power), L14 VDDSHV5 (power), M5 VPP (power), M6 VSS (power), M7 VSS (power), M8 VSS (power), M9 VSS (power), M10 VSS (power), M11 VDD_CORE (power), M12 VSS (power), M13 VDD_CORE (power), M14 VSSA_USB (power), N5 VDDSHV6 (power), N6 VDDS (power), N7 VSS (power), N8 VDD_CORE (power), N9 VDD_CORE (power), N10 VSS (power), N11 VSS (power), N12 VDD_CORE (power), N13 VDD_CORE (power), N14 VSSA_USB (power), N15 VDDA3P3V_USB0 (power), N16 VDDA1P8V_USB0 (power), P5 VDDSHV6 (power), P6 VDDSHV6 (power), P7 VDDSHV1 (power), P8 VDDSHV1 (power), P9 VDDS (power), P10 VDDSHV2 (power), P11 VDDSHV2 (power), P12 VDDSHV3 (power), P13 VDDSHV3 (power), P14 VDDS (power), R10 VDDS_PLL_CORE_LCD (power), R11 VDDS_OSC (power), R15 VDDA3P3V_USB1 (power), R16 VDDA1P8V_USB1 (power), V1 VSS (power), V18 VSS (power)
part A text: [OSC0_IN]; [PORZ]; [NRESETIN_OUT]; [OSC0_OUT]; [RTC_PORZ]; [NNMI]; [OSC1_IN]; [XDMA_EVENT_INTR0//TIMER4/CLKOUT1/SPI1_CS1/PR1_PRU1_PRU_R31_16/EMU2/GPIO0_19]; [XDMA_EVENT_INTR1//TCLKIN/CLKOUT2/TIMER7/PR1_PRU0_PRU_R31_16/EMU3/GPIO0_20]; [OSC1_OUT]; [NTRST]; AM335x; 15mm x 15mm Package; [GPMC_CLK/LCD_MEMORY_CLK/GPMC_WAIT1/MMC2_CLK/PR1_MII1_CRS/PR1_MDIO_MDCLK/MCASP0_FSR/GPIO2_1]; [GPMC_CSN0///////GPIO1_29]; [GPMC_CSN1/GPMC_CLK/MMC1_CLK/PR1_EDIO_DATA_IN6/PR1_EDIO_DATA_OUT6/PR1_PRU1_PRU_R30_12/PR1_PRU1_PRU_R31_12/GPIO1_30]; [GPMC_CSN2/GPMC_BE1N/MMC1_CMD/PR1_EDIO_DATA_IN7/PR1_EDIO_DATA_OUT7/PR1_PRU1_PRU_R30_13/PR1_PRU1_PRU_R31_13/GPIO1_31]; [GPMC_CSN3///MMC2_CMD/PR1_MII0_CRS/PR1_MDIO_DATA/EMU4/GPIO2_0]; [GPMC_WEN//TIMER6/////GPIO2_4]; [GPMC_OEN_REN//TIMER6/////GPIO2_4]; [GPMC_ADVN_ALE//TIMER4/////GPIO2_2]; [GPMC_BE0N_CLE//TIMER5/////GPIO2_5]; [GPMC_BE1N/GMII2_COL/GPMC_CSN6/MMC2_DAT3/GPMC_DIR/PR1_MII1_RXLINK/MCASP0_ACLKR/GPIO1_28]; [GPMC_WAIT0/GMII2_CRS/GPMC_CSN4/RMII2_CRS_DV/MMC1_SDCD/PR1_MII1_COL/UART4_RXD/GPIO0_30]; [GPMC_WPN/GMII2_RXERR/GPMC_CSN5/RMII2_RXERR/MMC2_SDCD/PR1_MII1_TXEN/UART4_TXD/GPIO0_31]; [GPMC_AD0/MMC1_DAT0//////GPIO1_0]; [GPMC_AD1/MMC1_DAT1//////GPIO1_1]; [GPMC_AD2/MMC1_DAT2//////GPIO1_2]; [GPMC_AD3/MMC1_DAT3//////GPIO1_3]; [GPMC_AD4/MMC1_DAT4//////GPIO1_4]; [GPMC_AD5/MMC1_DAT5//////GPIO1_5]; [GPMC_AD6/MMC1_DAT6//////GPIO1_6]; [GPMC_AD7/MMC1_DAT7//////GPIO1_7]; [GPMC_AD8/LCD_DATA23/MMC1_DAT0/MMC2_DAT4/EHRPWM2A/PR1_MII_MT0_CLK//GPIO0_22]; [GPMC_AD9/LCD_DATA22/MMC1_DAT1/MMC2_DAT5/EHRPWM2B/PR1_MII0_COL//GPIO0_23]; [GPMC_AD10/LCD_DATA21/MMC1_DAT2/MMC2_DAT6/EHRPWM2_TRIPZONE_INPUT/PR1_MII0_TXEN//GPIO0_26]; [GPMC_AD11/LCD_DATA20/MMC1_DAT3/MMC2_DAT7/EHRPWM2_SYNCO/PR1_MII0_TXD3//GPIO0_27]; [GPMC_AD12/LCD_DATA19/MMC1_DAT4/MMC2_DAT0/EQEP2A_IN/PR1_MII0_TXD2/PR1_PRU0_PRU_R30_14/GPIO1_12]; [GPMC_AD13/LCD_DATA18/MMC1_DAT5/MMC2_DAT1/EQEP2B_IN/PR1_MII0_TXD1/PR1_PRU0_PRU_R30_15/GPIO1_13]; [GPMC_AD14/LCD_DATA17/MMC1_DAT6/MMC2_DAT2/EQEP2_INDEX/PR1_MII0_TXD0/PR1_PRU0_PRU_R31_14/GPIO1_14]; [GPMC_AD15/LCD_DATA16/MMC1_DAT7/MMC2_DAT3/EQEP2_STROBE/PR1_ECAP0_ECAP_CAPIN_APWM_O/PR1_PRU0_PRU_R31_15/GPIO1_15]; [GPMC_A0/GMII2_TXEN/RGMII2_TCTL/RMII2_TXEN/GPMC_A16/PR1_MII_MT1_CLK/EHRPWM1_TRIPZONE_INPUT/GPIO1_16]; [GPMC_A1/GMII2_RXDV/RGMII2_RCTL/MMC2_DAT0/GPMC_A17/PR1_MII1_TXD3/EHRPWM0_SYNCO/GPIO1_17]; [GPMC_A2/GMII2_TXD3/RGMII2_TD3/MMC2_DAT1/GPMC_A18/PR1_MII1_TXD2/EHRPWM1A/GPIO1_18]; [DDR_NCK]; [GPMC_A3/GMII2_TXD2/RGMII2_TD2/MMC2_DAT2/GPMC_A19/PR1_MII1_TXD1/EHRPWM1B/GPIO1_19]; [GPMC_A4/GMII2_TXD1/RGMII2_TD1/RMII2_TXD1/GPMC_A20/PR1_MII1_TXD0/EQEP1A_IN/GPIO1_20]; [DDR_CSN0]; [GPMC_A5/GMII2_TXD0/RGMII2_TD0/RMII2_TXD0/GPMC_A21/PR1_MII1_RXD3/EQEP1B_IN/GPIO1_21]; [DDR_CASN]; [GPMC_A6/GMII2_TXCLK/RGMII2_TCLK/MMC2_DAT4/GPMC_A22/PR1_MII1_RXD2/EQEP1_INDEX/GPIO1_22]; [DDR_RASN]; [GPMC_A7/GMII2_RXCLK/RGMII2_RCLK/MMC2_DAT5/GPMC_A23/PR1_MII1_RXD1/EQEP1_STROBE/GPIO1_23]; [DDR_WEN]; [GPMC_A8/GMII2_RXD3/RGMII2_RD3/MMC2_DAT6/GPMC_A24/PR1_MII1_RXD0/MCASP0_ACLKX/GPIO1_24]; [GPMC_A9/GMII2_RXD2/RGMII2_RD2/MMC2_DAT7/GPMC_A25/PR1_MII_MR1_CLK/MCASP0_FSX/GPIO1_25]; [GPMC_A10/GMII2_RXD1/RGMII2_RD1/RMII2_RXD1/GPMC_A26/PR1_MII1_RXDV/MCASP0_AXR0/GPIO1_26]; [GPMC_A11/GMII2_RXD0/RGMII2_RD0/RMII2_RXD0/GPMC_A27/PR1_MII1_RXER/MCASP0_AXR1/GPIO1_27]; [DDR_DQSN0]; [MMC0_CLK/GPMC_A24/UART3_CTSN/UART2_RXD/DCAN1_TX/PR1_PRU0_PRU_R30_12/PR1_PRU0_PRU_R31_12/GPIO2_30]; [DDR_DQSN1]; [MMC0_CMD/GPMC_A25/UART3_RTSN/UART2_TXD/DCAN1_RX/PR1_PRU0_PRU_R30_13/PR1_PRU0_PRU_R31_13/GPIO2_31]; [MMC0_DAT0/GPMC_A23/UART5_RTSN/UART3_TXD/UART1_RIN/PR1_PRU0_PRU_R30_11/PR1_PRU0_PRU_R31_11/GPIO2_29]; [MMC0_DAT1/GPMC_A22/UART5_CTSN/UART3_RXD/UART1_DTRN/PR1_PRU0_PRU_R30_10/PR1_PRU0_PRU_R31_10/GPIO2_28]; [DDR_RESETN]; [MMC0_DAT2/GPMC_A21/UART4_RTSN/TIMER6/UART1_DSRN/PR1_PRU0_PRU_R30_9/PR1_PRU0_PRU_R31_9/GPIO2_27]; [MMC0_DAT3/GPMC_A20/UART4_CTSN/TIMER5/UART1_DCDN/PR1_PRU0_PRU_R30_8/PR1_PRU0_PRU_R31_8/GPIO2_26]
part B text: [GMII1_TXCLK/UART2_RXD/RGMII1_TCLK/MMC0_DAT7/MMC1_DAT0/UART1_DCDN/MCASP0_ACLKX/GPIO3_9]; [GMII1_TXD0/RMII1_TXD0/RGMII1_TD0/MCASP1_AXR2/MCASP1_ACLKR/EQEP0B_IN/MMC1_CLK/GPIO0_28]; [GMII1_TXD1/RMII1_TXD1/RGMII1_TD1/MCASP1_FSR/MCASP1_AXR1/EQEP0A_IN/MMC1_CMD/GPIO0_21]; AM335X; [GMII1_TXD2/DCAN0_RX/RGMII1_TD2/UART4_TXD/MCASP1_AXR0/MMC2_DAT2/MCASP0_AHCLKX/GPIO0_17]; [GMII1_TXD3/DCAN0_TX/RGMII1_TD3/UART4_RXD/MCASP1_FSX/MMC2_DAT1/MCASP0_FSR/GPIO0_16]; [GMII1_TXEN/RMII1_TXEN/RGMII1_TCTL/TIMER4/MCASP1_AXR0/EQEP0_INDEX/MMC2_CMD/GPIO3_3]; [GMII1_CRS/RMII1_CRS_DV/SPI1_D0/I2C1_SDA/MCASP1_ACLKX/UART5_CTSN/UART2_RXD/GPIO3_1]; 15mm x 15mm Package; [GMII1_COL/RMII2_REFCLK/SPI1_SCLK/UART5_RXD/MCASP1_AXR2/MMC2_DAT3/MCASP0_AXR2/GPIO3_0]; [GMII1_RXCLK/UART2_TXD/RGMII1_RCLK/MMC0_DAT6/MMC1_DAT1/UART1_DSRN/MCASP0_FSX/GPIO3_10]; [GMII1_RXD0/RMII1_RXD0/RGMII1_RD0/MCASP1_AHCLKX/MCASP1_AHCLKR/MCASP1_ACLKR/MCASP0_AXR3/GPIO2_21]; [GMII1_RXD1/RMII1_RXD1/RGMII1_RD1/MCASP1_AXR3/MCASP1_FSR/EQEP0_STROBE/MMC2_CLK/GPIO2_20]; [GMII1_RXD2/UART3_TXD/RGMII1_RD2/MMC0_DAT4/MMC1_DAT3/UART1_RIN/MCASP0_AXR1/GPIO2_19]; [GMII1_RXD3/UART3_RXD/RGMII1_RD3/MMC0_DAT5/MMC1_DAT2/UART1_DTRN/MCASP0_AXR0/GPIO2_18]; [GMII1_RXERR/RMII1_RXERR/SPI1_D1/I2C1_SCL/MCASP1_FSX/UART5_RTSN/UART2_TXD/GPIO3_2]; [GMII1_RXDV/LCD_MEMORY_CLK/RGMII1_RCTL/UART5_TXD/MCASP1_ACLKX/MMC2_DAT0/MCASP0_ACLKR/GPIO3_4]; [SPI0_SCLK/UART2_RXD/I2C2_SDA/EHRPWM0A/PR1_UART0_CTS_N/PR1_EDIO_SOF/EMU2/GPIO0_2]; [RMII1_REFCLK/XDMA_EVENT_INTR2/SPI1_CS0/UART5_TXD/MCASP1_AXR3/MMC0_POW/MCASP1_AHCLKX/GPIO0_29]; [SPI0_D0/UART2_TXD/I2C2_SCL/EHRPWM0B/PR1_UART0_RTS_N/PR1_EDIO_LATCH_IN/EMU3/GPIO0_3]; [MDIO_CLK/TIMER5/UART5_TXD/UART3_RTSN/MMC0_SDWP/MMC1_CLK/MMC2_CLK/GPIO0_1]; [SPI0_D1/MMC1_SDWP/I2C1_SDA/EHRPWM0_TRIPZONE_INPUT/PR1_UART0_RXD/PR1_EDIO_DATA_IN0/PR1_EDIO_DATA_OUT0/GPIO0_4]; [MDIO_DATA/TIMER6/UART5_RXD/UART3_CTSN/MMC0_SDCD/MMC1_CMD/MMC2_CMD/GPIO0_0]; [SPI0_CS0/MMC2_SDWP/I2C1_SCL/EHRPWM0_SYNCI/PR1_UART0_TXD/PR1_EDIO_DATA_IN1/PR1_EDIO_DATA_OUT1/GPIO0_5]; [SPI0_CS1/UART3_RXD/ECAP1_IN_PWM1_OUT/MMC0_POW/XDMA_EVENT_INTR2/MMC0_SDCD/EMU4/GPIO0_6]; [LCD_DATA0/GPMC_A0/PR1_MII_MT0_CLK/EHRPWM2A//PR1_PRU1_PRU_R30_0/PR1_PRU1_PRU_R31_0/GPIO2_6]; [UART0_TXD/SPI1_CS1/DCAN0_RX/I2C2_SCL/ECAP1_IN_PWM1_OUT/PR1_PRU1_PRU_R30_15/PR1_PRU1_PRU_R31_15/GPIO1_11]; [LCD_DATA1/GPMC_A1/PR1_MII0_TXEN/EHRPWM2B//PR1_PRU1_PRU_R30_1/PR1_PRU1_PRU_R31_1/GPIO2_7]; [UART0_RXD/SPI1_CS0/DCAN0_TX/I2C2_SDA/ECAP2_IN_PWM2_OUT/PR1_PRU1_PRU_R30_14/PR1_PRU1_PRU_R31_14/GPIO1_10]; [LCD_DATA2/GPMC_A2/PR1_MII0_TXD3/EHRPWM2_TRIPZONE_INPUT//PR1_PRU1_PRU_R30_2/PR1_PRU1_PRU_R31_2/GPIO2_8]; [LCD_DATA3/GPMC_A3/PR1_MII0_TXD2/EHRPWM2_SYNCI_O//PR1_PRU1_PRU_R30_3/PR1_PRU1_PRU_R31_3/GPIO2_9]; [UART0_CTSN/UART4_RXD/DCAN1_TX/I2C1_SDA/SPI1_D0/TIMER7/PR1_EDC_SYNC0_OUT/GPIO1_8]; [LCD_DATA4/GPMC_A4/PR1_MII0_TXD1/EQEP2A_IN//PR1_PRU1_PRU_R30_4/PR1_PRU1_PRU_R31_4/GPIO2_10]; [UART0_RTSN/UART4_TXD/DCAN1_RX/I2C1_SCL/SPI1_D1/SPI1_CS0/PR1_EDC_SYNC1_OUT/GPIO1_9]; [LCD_DATA5/GPMC_A5/PR1_MII0_TXD0/EQEP2B_IN//PR1_PRU1_PRU_R30_5/PR1_PRU1_PRU_R31_5/GPIO2_11]; [LCD_DATA6/GPMC_A6/PR1_EDIO_DATA_IN6/EQEP2_INDEX/PR1_EDIO_DATA_OUT6/PR1_PRU1_PRU_R30_6/PR1_PRU1_PRU_R31_6/GPIO2_12]; [LCD_DATA7/GPMC_A7/PR1_EDIO_DATA_IN7/EQEP2_STROBE/PR1_EDIO_DATA_OUT7/PR1_PRU1_PRU_R30_7/PR1_PRU1_PRU_R31_7/GPIO2_13]; [LCD_DATA8/GPMC_A12/EHRPWM1_TRIPZONE_INPUT/MCASP0_ACLKX/UART5_TXD/PR1_MII0_RXD3/UART2_CTSN/GPIO2_14]; [LCD_DATA9/GPMC_A13/EHRPWM1_SYNCO/MCASP0_FSX/UART5_RXD/PR1_MII0_RXD2/UART2_RTSN/GPIO2_15]; [UART1_TXD/MMC2_SDWP/DCAN1_RX/I2C1_SCL//PR1_UART0_TXD/PR1_PRU0_PRU_R31_16/GPIO0_15]; [LCD_DATA10/GPMC_A14/EHRPWM1A/MCASP0_AXR0//PR1_MII0_RXD1/UART3_CTSN/GPIO2_16]; [UART1_RXD/MMC1_SDWP/DCAN1_TX/I2C1_SDA//PR1_UART0_RXD/PR1_PRU1_PRU_R31_16/GPIO0_14]; [LCD_DATA11/GPMC_A15/EHRPWM1B/MCASP0_AHCLKR/MCASP0_AXR2/PR1_MII0_RXD0/UART3_RTSN/GPIO2_17]; [UART1_CTSN/TIMER6/DCAN0_TX/I2C2_SDA/SPI1_CS0/PR1_UART0_CTS_N/PR1_EDC_LATCH0_IN/GPIO0_12]; [LCD_DATA12/GPMC_A16/EQEP1A_IN/MCASP0_ACLKR/MCASP0_AXR2/PR1_MII0_RXLINK/UART4_CTSN/GPIO0_8]; [UART1_RTSN/TIMER5/DCAN0_RX/I2C2_SCL/SPI1_CS1/PR1_UART0_RTS_N/PR1_EDC_LATCH1_IN/GPIO0_13]; [LCD_DATA13/GPMC_A17/EQEP1B_IN/MCASP0_FSR/MCASP0_AXR3/PR1_MII0_RXER/UART4_RTSN/GPIO0_9]; [LCD_DATA14/GPMC_A18/EQEP1_INDEX/MCASP0_AXR1/UART5_RXD/PR1_MII_MR0_CLK/UART5_CTSN/GPIO0_10]; [I2C0_SCL/TIMER7/UART2_RTSN/ECAP1_IN_PWM1_OUT////GPIO3_6]; [LCD_DATA15/GPMC_A19/EQEP1_STROBE/MCASP0_AHCLKX/MCASP0_AXR3/PR1_MII0_RXDV/UART5_RTSN/GPIO0_11]; [I2C0_SDA/TIMER4/UART2_CTSN/ECAP2_IN_PWM2_OUT////GPIO3_5]; [LCD_PCLK/GPMC_A10/PR1_MII0_CRS/PR1_EDIO_DATA_IN4/PR1_EDIO_DATA_OUT4/PR1_PRU1_PRU_R30_10/PR1_PRU1_PRU_R31_10/GPIO2_24]; [LCD_VSYNC/GPMC_A8//PR1_EDIO_DATA_IN2/PR1_EDIO_DATA_OUT2/PR1_PRU1_PRU_R30_8/PR1_PRU1_PRU_R31_8/GPIO2_22]; [LCD_HSYNC/GPMC_A9//PR1_EDIO_DATA_IN3/PR1_EDIO_DATA_OUT3/PR1_PRU1_PRU_R30_9/PR1_PRU1_PRU_R31_9/GPIO2_23]; [LCD_AC_BIAS_EN/GPMC_A11/PR1_MII1_CRS/PR1_EDIO_DATA_IN5/PR1_EDIO_DATA_OUT5/PR1_PRU1_PRU_R30_11/PR1_PRU1_PRU_R31_11/GPIO2_25]; [USB0_DRVVBUS///////GPIO0_18]; [MCASP0_AHCLKX/EQEP0_STROBE/MCASP0_AXR3/MCASP1_AXR1/EMU4/PR1_PRU0_PRU_R30_7/PR1_PRU0_PRU_R31_7/GPIO3_21]; [MCASP0_ACLKX/EHRPWM0A//SPI1_SCLK/MMC0_SDCD/PR1_PRU0_PRU_R30_0/PR1_PRU0_PRU_R31_0/GPIO3_14]; [MCASP0_FSX/EHRPWM0B//SPI1_D0/MMC1_SDCD/PR1_PRU0_PRU_R30_1/PR1_PRU0_PRU_R31_1/GPIO3_15]; [MCASP0_AXR0/EHRPWM0_TRIPZONE_INPUT//SPI1_D1/MMC2_SDCD/PR1_PRU0_PRU_R30_2/PR1_PRU0_PRU_R31_2/GPIO3_16]; [MCASP0_AHCLKR/EHRPWM0_SYNCI_O/MCASP0_AXR2/SPI1_CS0/ECAP2_IN_PWM2_OUT/PR1_PRU0_PRU_R30_3/PR1_PRU0_PRU_R31_3/GPIO3_17]; [USB1_DRVVBUS///////GPIO3_13]; [MCASP0_ACLKR/EQEP0A_IN/MCASP0_AXR2/MCASP1_ACLKX/MMC0_SDWP/PR1_PRU0_PRU_R30_4/PR1_PRU0_PRU_R31_4/GPIO3_18]; [MCASP0_FSR/EQEP0B_IN/MCASP0_AXR3/MCASP1_FSX/EMU2/PR1_PRU0_PRU_R30_5/PR1_PRU0_PRU_R31_5/GPIO3_19]; [MCASP0_AXR1/EQEP0_INDEX//MCASP1_AXR0/EMU3/PR1_PRU0_PRU_R30_6/PR1_PRU0_PRU_R31_6/GPIO3_20]; [ECAP0_IN_PWM0_OUT/UART3_TXD/SPI1_CS1/PR1_ECAP0_ECAP_CAPIN_APWM_O/SPI1_SCLK/MMC0_SDWP/XDMA_EVENT_INTR2/GPIO0_7]
part C text: AM335X; 15mm x 15mm Package; [ENZ_KALDO_1P8V]; [TESTOUT]

## Battery_coin3V
designator BT?
Coin battery 3.1V lithium; PartName: Battery3_1VLithium; Mfr: Seiko; MfrNum: MS920SE-FL27E; TIIntPartnumber: 1P0003; Vendor: Digikey; Cost100: 1.74; Cost10K: 0.98; DescriptiveText: Coin battery 3.1V lithium; Descriptive_Text: Coin battery 3.1V lithium; Supplier 1: Digi-Key; Supplier Part Number 1: 728-1058-ND
footprint BATTERY
pins: 1 Pos, 2 Neg

## BC817-40
designator Q?
NPN General Purpose Amplifier; Manufacturer: Fairchild Semiconductor; Revision 1: 11-July-2000: SIM Model Added.; Revision 2: July-2002: Re-released for DXP Platform.; Package Information: Latest Revision: Sep-1998; Class I: Discrete; Class II: BJT - Low Power; Published: 8-Jun-2000; Datasheet: Latest Revision: 1997; Package Reference: SOT-23A; Publisher: Altium Limited
footprint NPN
pins: 1 B, 2 E, 3 C

## C2012X7R1A105K
designator C?, comment 1uF,10V,0805
Multilayer Ceramic Capacitors MLCC - SMD/SMT 0805 1uF 10volts X7R 10%; Manufacturer: TDK; Manufacturer Part Number: C2012X7R1A105K; Type: Multilayer Ceramic Chip Capacitor; Case Height: 0.85 mm; Case Length: 2 mm; Case Width: 1.25 mm; Temperature Coefficient / Code: +/- 15 %; Product Status: Obsolete; Supplier 1: Mouser; RoHS: RoHS Compliant; Category: Multilayer Ceramic Capacitors MLCC - SMD/SMT; Stock 1: 0; Pricing 1: 1=0.178, 10=0.077, 100=0.045, 1000=0.037, 2000=0.027, 10000=0.025, 24000=0.024, 50000=0.022, 100000=0.016 (AUD); Capacitance: 1 uF; Operating Temperature Range: - 55 C to + 125 C; Package / Case: 0805 (2012 metric); Packaging: Reel; Product: General Type MLCCs; Series: C; Termination Style: SMD/SMT; Tolerance: 10 %; Voltage Rating DC: 10 V; Brand: TDK; Case Code - in: 0805; Case Code - mm: 2012; Dielectric: X7R; Maximum Operating Temperature: + 125 C; Minimum Operating Temperature: - 55 C; Product Category: High Capacitance SMD Ceramic Chip Capacitors; Standard Pack Qty: 2000; RoHS - Mouser: Y; Minimum Order Quantity: 1; Reeling: True; ComponentLink1URL: http://www.mouser.com/ds/2/400/mlcc_commercial_general_en-266370.pdf; ComponentLink1Description: http://www.mouser.com/ds/2/400/mlcc_commercial_general_en-266370.pdf; Supplier Part Number 1: 810-C2012X7R1A105K
footprint 0805
pins: 1, 2

## C2012X7R1A475K125AC
designator C?, comment 4.7UF,10V,0805
Multilayer Ceramic Capacitors MLCC - SMD/SMT 0805 4.7uF 10volts X7R 10%; Manufacturer: TDK; Manufacturer Part Number: C2012X7R1A475K125AC; Type: Multilayer Ceramic Chip Capacitor; Case Length: 1.25 mm; Case Width: 2 mm; Temperature Coefficient / Code: +/- 15 %; Supplier 1: Mouser; RoHS: RoHS Compliant; Category: Multilayer Ceramic Capacitors MLCC - SMD/SMT; Stock 1: 18247; Pricing 1: 1=0.401, 10=0.270, 100=0.098, 1000=0.085, 2000=0.065, 10000=0.059, 24000=0.055, 50000=0.053, 100000=0.045 (AUD); Capacitance: 4.7 uF; Operating Temperature Range: - 55 C to + 125 C; Package / Case: 0805 (2012 metric); Packaging: Reel; Product: General Type MLCCs; Series: C; Termination Style: SMD/SMT; Tolerance: 10 %; Voltage Rating DC: 10 V; Brand: TDK; Case Code - in: 0805; Case Code - mm: 2012; Dielectric: X7R; Maximum Operating Temperature: + 125 C; Minimum Operating Temperature: - 55 C; Product Category: High Capacitance SMD Ceramic Chip Capacitors; Standard Pack Qty: 2000; RoHS - Mouser: Y; Minimum Order Quantity: 1; Reeling: True; ComponentLink1URL: http://www.mouser.com/ds/2/400/mlcc_commercial_general_en-266370.pdf; ComponentLink1Description: http://www.mouser.com/ds/2/400/mlcc_commercial_general_en-266370.pdf; Supplier Part Number 1: 810-C2012X7R1A475K
footprint 0805
pins: 1, 2

## Conn_2X5
designator J?, comment CONNECTOR
footprint CONN_2X5
pins: 1, 2, 3, 4, 5, 6, 7, 8, 9, 10

## Conn_2x20pin
designator J?, comment CONNECTOR
footprint CONN_2X20 2mm
pins: 1, 2, 3, 4, 5, 6, 7, 8, 9, 10, 11, 12, 13, 14, 15, 16, 17, 18, 19, 20, 21, 22, 23, 24, 25, 26, 27, 28, 29, 30, 31, 32, 33, 34, 35, 36, 37, 38, 39, 40

## CONN_3_PIN
designator J?
footprint CON_3
pins: 1, 2, 3

## conn_40pin_0.5mm_FFC
designator J?  Supplier Part Number 1: WM7706CT-ND
PartName: Conn_FFC_0.5mm_40pos; Mfr: Molex; MfrNum: 54132-4097; TIIntPartnumber: 2C0101; Manufacturer: Molex Inc; Manufacturer Part Number: 0541324097; Cost100: 1.21; Cost10K: 0.31; DescriptiveText: Connector 0.5mm pitch, 40 Pin, 0.5A/50V, FFC; Flat Flex Type: FFC, FPC; Connector/Contact Type: Contacts, Bottom; Number of Positions: 40; Pitch: 0.020" (0.50mm); FFC, FCB Thickness: 0.30mm; Locking Feature: Slide Lock; Cable End Type: Straight, Tapered; Actuator Material: Polyphenylene Sulfide (PPS); Voltage Rating: 50V; Material Flammability Rating: UL94 V-0; Current Rating: 0.5A; Vendor: Molex; Supplier 1: Digi-Key; RoHS: RoHS Compliant; Category: Connectors, Interconnects; Stock 1: 0; Pricing 1: 1=0 (USD); Packaging: Cut Tape (CT); Mounting Type: Surface Mount, Right Angle; Termination: Solder; Height Above Board: 0.079" (2.00mm); Contact Material: Phosphor Bronze; Contact Finish: Tin Bismuth; Housing Material: Polyamide (PA46), Nylon 4/6; Features: Solder Retention, Zero Insertion Force (ZIF); Operating Temperature: -20°C ~ 85°C; ComponentLink1URL: http://www.molex.com/pdm_docs/sd/541324097_sd.pdf; ComponentLink1Description: http://www.molex.com/pdm_docs/sd/541324097_sd.pdf
footprint CNFPC1X40-0P5MM
pins: 1, 2, 3, 4, 5, 6, 7, 8, 9, 10, 11, 12, 13, 14, 15, 16, 17, 18, 19, 20, 21, 22, 23, 24, 25, 26, 27, 28, 29, 30, 31, 32, 33, 34, 35, 36, 37, 38, 39, 40, 41, 42

## Conn_DSUB9M_TH
designator J?
TIIntPartnumber: 2C0098; MfrNum: 182-009-113R531; Mfr: Norcomp; PartName: Conn_DSub9MTH; Cost10K: 0.82; Cost100: 1.20; Vendor: Digikey; DescriptiveText: Connector DB9 Male RA Throughhole; Supplier 1: Digi-Key; Supplier Part Number 1: 182-09ME-ND
footprint norcomp_db9m_th
pins: 1, 2, 3, 4, 5, 6, 7, 8, 9, 10, 11

## Conn_microSD_8
designator J?, comment SCHA5B0200  Supplier Part Number 1: 688-SCHA5B0200
TIIntPartnumber: 2C0102; Mfr: ALPS; PartName: Conn_microSD_SCHA5B0200; DescriptiveText: Connector compact low-profile Push Type Micro SD; Cost10K: x.00; Vendor: Mouser; Number of Contacts: 8; Voltage Rating: 500 VAC; Card Type: microSD; Insertion - Extraction Style: Push-Push; Mating Cycles: 10 k; Cost100: x.00; MfrNum: SCHA5B0200; Manufacturer: ALPS; Manufacturer Part Number: SCHA5B0200; RoHS: RoHS Compliant; Category: Memory Card Connectors; Features: With switch; Height: 15.25 mm; Length: 13.825 mm; Mounting Type: Reverse; Number of Rows: 1; Orientation: Horizontal; Packaging: Reel; Product: Card Connectors; Termination Style: SMD; Brand: ALPS; Mounting Style: -; Standard Pack Qty: 1500; RoHS - Mouser: Y; Minimum Order Quantity: 1; Reeling: True; ComponentLink1URL: http://www.mouser.com/ds/2/15/SCHA-186221.pdf; ComponentLink1Description: http://www.mouser.com/ds/2/15/SCHA-186221.pdf; Supplier 1: Mouser; Stock 1: 13412; Pricing 1: 1=1.62, 25=1.46, 50=1.35, 100=1.31, 500=1.22, 1000=1.18, 1500=1.14, 4500=1.07, 9000=1.04 (AUD)
footprint SD-MICRO-SCHA5B0300
pins: 1 DAT2, 2 CD/DAT3, 3 CMD, 4 VDD (power), 5 CLOCK, 6 VSS (power), 7 DAT0, 8 DAT1, 9 GND (power), 10 CD, 11 GND3 (power), 12 GND4 (power), 13 GND5 (power), 14 GND6 (power), 15 GND7 (power), 16 GND8 (power)

## Conn_MicroUSBAB
designator J?
Connector Micro USB AB RA; TIIntPartnumber: 2C0088; MfrNum: ZX62-AB-5PA(11); Mfr: Hirose; Cost10K: 0.26; Cost100: 0.67; Vendor: Digikey; DescriptiveText: Connector Micro USB AB RA; PartName: ConnectorMicroUSBAB; Descriptive_Text: Connector Micro USB AB RA; Supplier 1: Digi-Key; Supplier Part Number 1: H11635CT-ND
footprint ZX62-AB-5PA
pins: 1 VBUS, 2 DM, 3 DP, 4 ID, 5 GND, S1 (power), S2 (power), S3 (power), S4 (power)

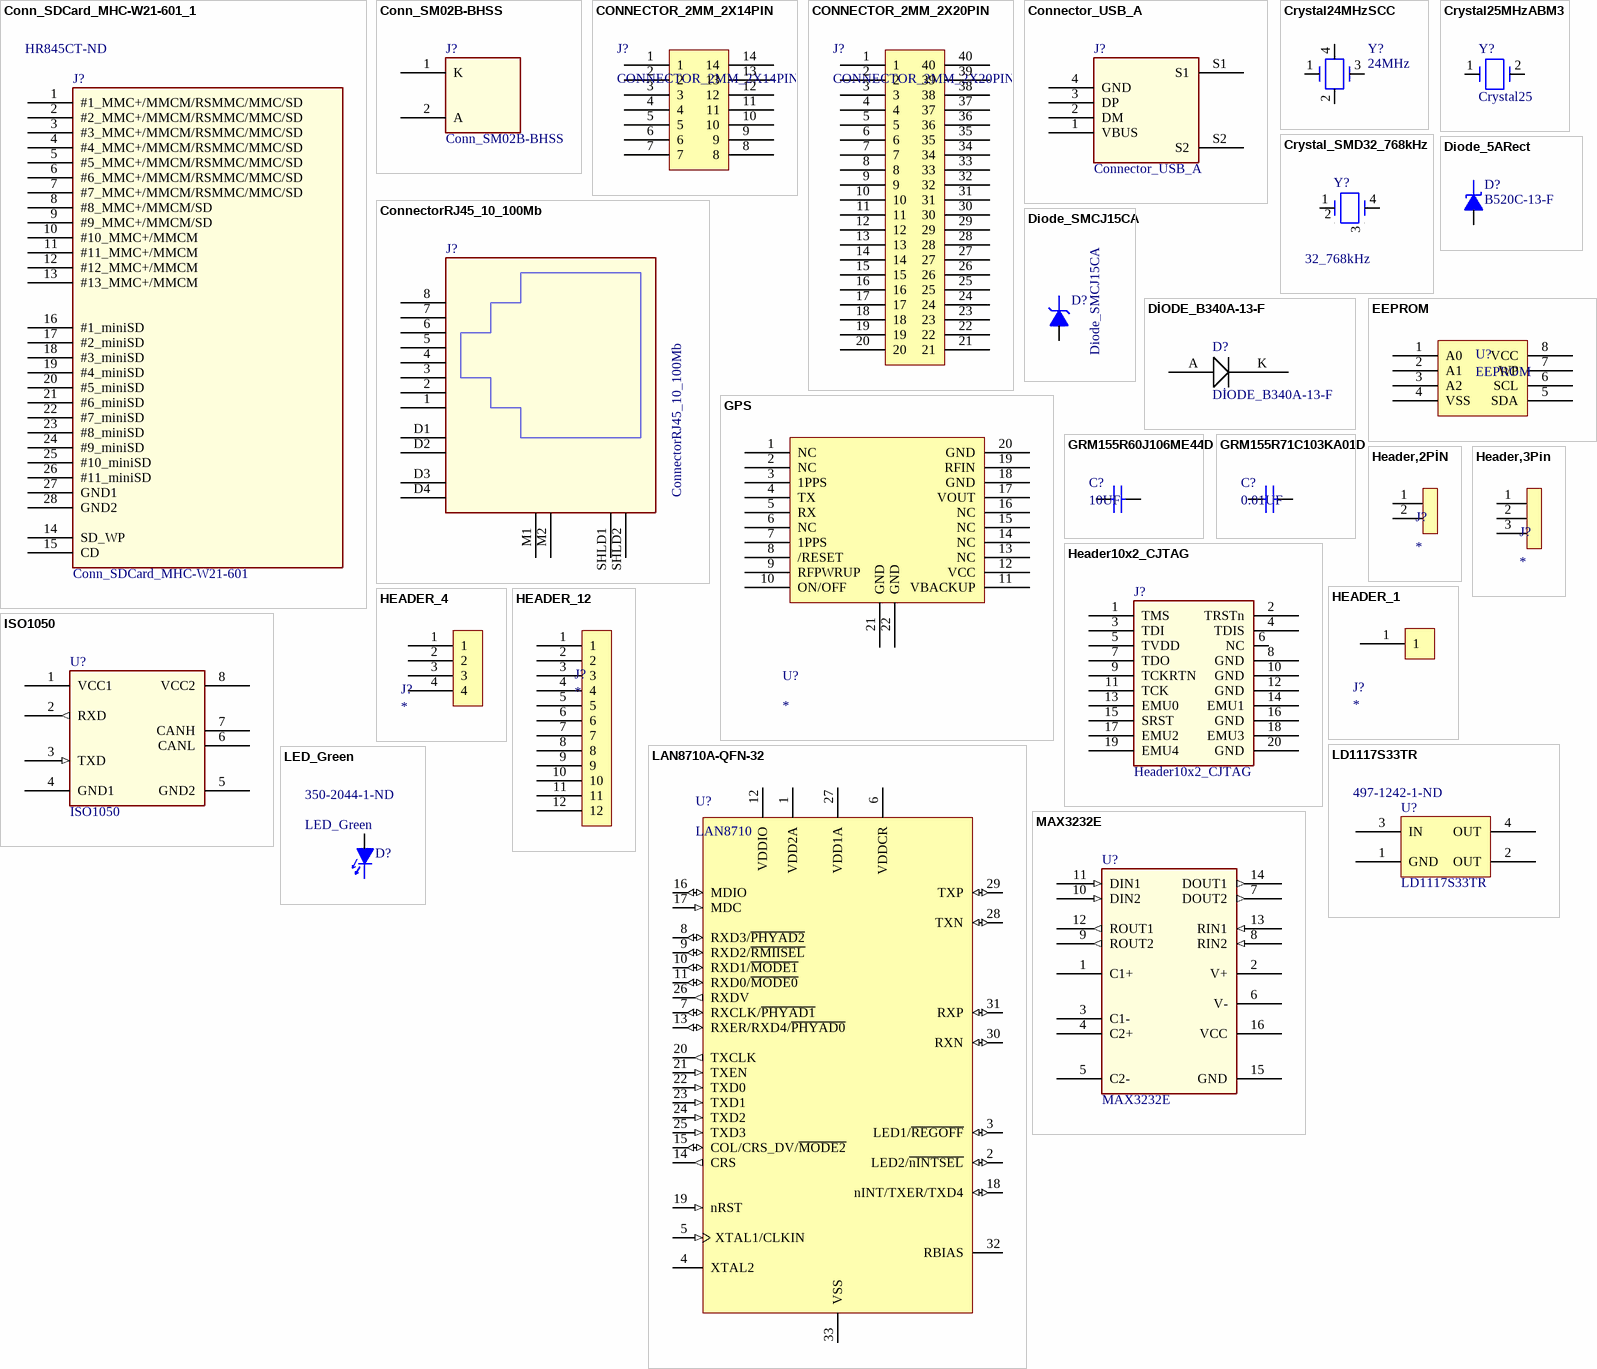
[diagram p4: symbols Conn_SDCard_MHC-W21-601_1 to MAX3232E]

## Conn_SDCard_MHC-W21-601_1
designator J?, comment Conn_SDCard_MHC-W21-601  Supplier Part Number 1: HR845CT-ND
Connector SD/MMC; PartName: ConnectorSDMMC; Mfr: Morethanall; MfrNum: MHC-W21-601-LF; TIIntPartnumber: 2C0089; Cost100: 0.95; Cost10K: 0.29; DescriptiveText: Connector SD/MMC; Vendor: Morethanall; Descriptive_Text: Connector SD/MMC; Supplier 1: Digi-Key
footprint MHC-W21-601-LF
pins: 1 #1_MMC+/MMCM/RSMMC/MMC/SD, 2 #2_MMC+/MMCM/RSMMC/MMC/SD, 3 #3_MMC+/MMCM/RSMMC/MMC/SD, 4 #4_MMC+/MMCM/RSMMC/MMC/SD, 5 #5_MMC+/MMCM/RSMMC/MMC/SD, 6 #6_MMC+/MMCM/RSMMC/MMC/SD, 7 #7_MMC+/MMCM/RSMMC/MMC/SD, 8 #8_MMC+/MMCM/SD, 9 #9_MMC+/MMCM/SD, 10 #10_MMC+/MMCM, 11 #11_MMC+/MMCM, 12 #12_MMC+/MMCM, 13 #13_MMC+/MMCM, 14 SD_WP, 15 CD, 16 #1_miniSD, 17 #2_miniSD, 18 #3_miniSD, 19 #4_miniSD, 20 #5_miniSD, 21 #6_miniSD, 22 #7_miniSD, 23 #8_miniSD, 24 #9_miniSD, 25 #10_miniSD, 26 #11_miniSD, 27 GND1, 28 GND2

## Conn_SM02B-BHSS
designator J?
Connector BHS Series 2pin PCB; TIIntPartnumber: 2C0093; MfrNum: SM02B-BHSS-1-TB; Mfr: JST; Cost10K: 0.82; Cost100: 1.74; Vendor: Digikey; Descriptive_Text: Connector BHS Series 2pin PCB; PartName: Conn_SM02B-BHSS; DescriptiveText: Connector BHS Series 2pin PCB; Supplier 1: Digi-Key; Supplier Part Number 1: 455-2876-6-ND
footprint sm_con_sm02b_bhss-1
pins: 1 K, 2 A

## CONNECTOR_2MM_2X14PIN
designator J?
footprint JTAG,0.254_G
pins: 1, 2, 3, 4, 5, 6, 7, 8, 9, 10, 11, 12, 13, 14

## CONNECTOR_2MM_2X20PIN
designator J?
footprint CONN_2X20 2mm
pins: 1, 2, 3, 4, 5, 6, 7, 8, 9, 10, 11, 12, 13, 14, 15, 16, 17, 18, 19, 20, 21, 22, 23, 24, 25, 26, 27, 28, 29, 30, 31, 32, 33, 34, 35, 36, 37, 38, 39, 40

## Connector_USB_A
designator J?
Mfr: FCI; MfrNum: 87520-0010BLF; TIIntPartnumber: 2C0017; Vendor: Digikey; Cost100: 0.477; Cost10K: 0.4000; DescriptiveText: CONN USB RECEPT TYPE A PCB; PartName: Connector_USB_A; Supplier 1: Digi-Key; Supplier Part Number 1: 609-1045-ND
footprint usb_std_a_th (USB_STD_A_TH)
pins: 1 VBUS, 2 DM, 3 DP, 4 GND, S1 (power), S2 (power)

## ConnectorRJ45_10_100Mb
designator J?
Connector MagRJ-45 Jack w/LED 10_100Mb; Mfr: Tyco; MfrNum: 5-6605728-1; TIIntPartnumber: 2J0020; Vendor: Digikey; Cost100: 8.45; Cost10K: 3.22; Descriptive_Text: Connector MagRJ-45 Jack w/LED 10_100Mb; PartName: ConnectorRJ45_10_100Mb; DescriptiveText: Connector MagRJ-45 Jack w/LED 10_100Mb; Supplier 1: Digi-Key; Supplier Part Number 1: 1419-1020-ND
footprint 6605728-1
pins: 1, 2, 3, 4, 5, 6, 7, 8, D1, D2, D3, D4, M1, M2, SHLD1, SHLD2

## Crystal24MHzSCC
designator Y?, comment 24MHz
Crystal 24MHz; PartName: Crystal24MHzSCC; Mfr: Suntsu; MfrNum: SCC18B-24.000MHz TR; TIIntPartnumber: 1Y0033; Vendor: Suntsu Inc; Cost100: 0.90; Cost10K: 0.51; DescriptiveText: Crystal 24MHz; Descriptive_Text: Crystal 24MHz; Supplier 1: Digi-Key; Supplier Part Number 1: 887-1110-1-ND
footprint SM_CRY_SCC18
pins: 1, 2 NC0, 3, 4 NC1

## Crystal25MHzABM3
designator Y?, comment Crystal25
Crystal 25MHz; TIIntPartnumber: 1Y0030; MfrNum: ABM3-25.000MHz-B2-T; Mfr: Abracon; PartName: Crystal25MHzABM3; Manufacturer: Abracon Corporation; Cost10K: 0.51; Cost100: 0.90; Vendor: Digikey; TN: tbd; Frequency Stability: ±50ppm; Frequency Tolerance: ±20ppm; Load Capacitance: 18pF; ESR (Equivalent Series Resistance): 30 Ohm; Operating Mode: Fundamental; Descriptive_Text: Crystal 25MHz; DescriptiveText: Crystal 25MHz; Supplier 1: Digi-Key; Manufacturer Part Number: ABM3-25.000MHZ-B2-T; RoHS: RoHS Compliant; Category: Crystals and Oscillators; Stock 1: 10200; Pricing 1: 1=1.04, 10=0.92, 50=0.8588, 100=0.76, 500=0.7182 (USD); Packaging: Cut Tape (CT); Type: MHz Crystal; Frequency: 25MHz; Operating Temperature: -20°C ~ 70°C; Ratings: -; Mounting Type: Surface Mount; Package / Case: 2-SMD; Size / Dimension: 0.197" L x 0.126" W (5.00mm x 3.20mm); Height: 0.051" (1.30mm); ComponentLink1URL: http://www.abracon.com/Resonators/abm3.pdf; ComponentLink1Description: http://www.abracon.com/Resonators/abm3.pdf; Supplier Part Number 1: 535-9108-1-ND
footprint SM_OSC_ABM3
pins: 1, 2

## Crystal_SMD32_768kHz
designator Y?, comment 32_768kHz
Crystal 32.768KHz; TIIntPartnumber: 1Y0029; MfrNum: MC-30632.7680k-A; Mfr: Epson; PartName: Crystal32.768KHzMC306; Cost10K: 0.338; Cost100: 0.41; Vendor: Digikey; TN: tbd; Descriptive_Text: Crystal 32.768KHz; DescriptiveText: Crystal 32.768KHz; Supplier 1: Digi-Key; Supplier Part Number 1: SER2407TR-ND
footprint CRSTAL_RTC (MC-306)
pins: 1, 2, 3, 4

## Diode_5ARect
designator D?, comment B520C-13-F
Diode Power Rectifier 5A Schottky; PartName: Diode_5ARect; Mfr: Diodes Inc; TIIntPartnumber: 1E0012; Vendor: Digikey; Cost100: 0.17; Cost10K: 0.09; DescriptiveText: Diode Power Rectifier 5A Schottky; MfrNum: B520C-13-F; Descriptive_Text: Diode Power Rectifier 5A Schottky; Supplier 1: Digi-Key; Supplier Part Number 1: B520C-FDITR-ND
footprint B520C-13-F
pins: 1 CATHODE, 2 ANODE

## Diode_SMCJ15CA
designator D?
Voltage Surpressor 15.0V; Mfr: LittleFuse; TIIntPartnumber: 1E0011; Manufacturer: Bourns Inc.; Vendor: Digikey; Cost100: 0.41; Cost10K: 0.26; Type: Zener; Bidirectional Channels: 1; Voltage - Reverse Standoff (Typ): 15V; Voltage - Breakdown (Min): 16.7V; Power - Peak Pulse: 1500W (1.5kW); Power Line Protection: No; DescriptiveText: Voltage Surpressor 15.0V; PartName: SMCJ15CA; MfrNum: SMCJ15CA; Descriptive_Text: Voltage Surpressor 15.0V; Supplier 1: Digi-Key; Manufacturer Part Number: SMCJ15CA; RoHS: RoHS Compliant; Category: Circuit Protection; Stock 1: 12741; Pricing 1: 1=0.63, 10=0.55, 25=0.4856, 100=0.4233, 250=0.36844, 500=0.31364, 1000=0.25121 (USD); Packaging: Cut Tape (CT); Unidirectional Channels: -; Voltage - Clamping (Max) @ Ipp: -; Current - Peak Pulse (10/1000µs): -; Applications: General Purpose; Capacitance @ Frequency: -; Operating Temperature: -55°C ~ 150°C (TJ); Mounting Type: Surface Mount; Package / Case: DO-214AB, SMC; Supplier Device Package: SMC (DO-214AB); ComponentLink1URL: http://www.bourns.com/data/global/pdfs/SMCJ.pdf; ComponentLink1Description: http://www.bourns.com/data/global/pdfs/SMCJ.pdf; Supplier Part Number 1: SMCJ15CABCT-ND
footprint SMCJ15CA
pins: 1 CATHODE, 2 ANODE